# Altium schematic symbol library CM3_CM4_2021_Lib.SchLib: 258 symbols (part 1 of 4)
Pins are listed as number, name and electrical type; pins without a type are passive.

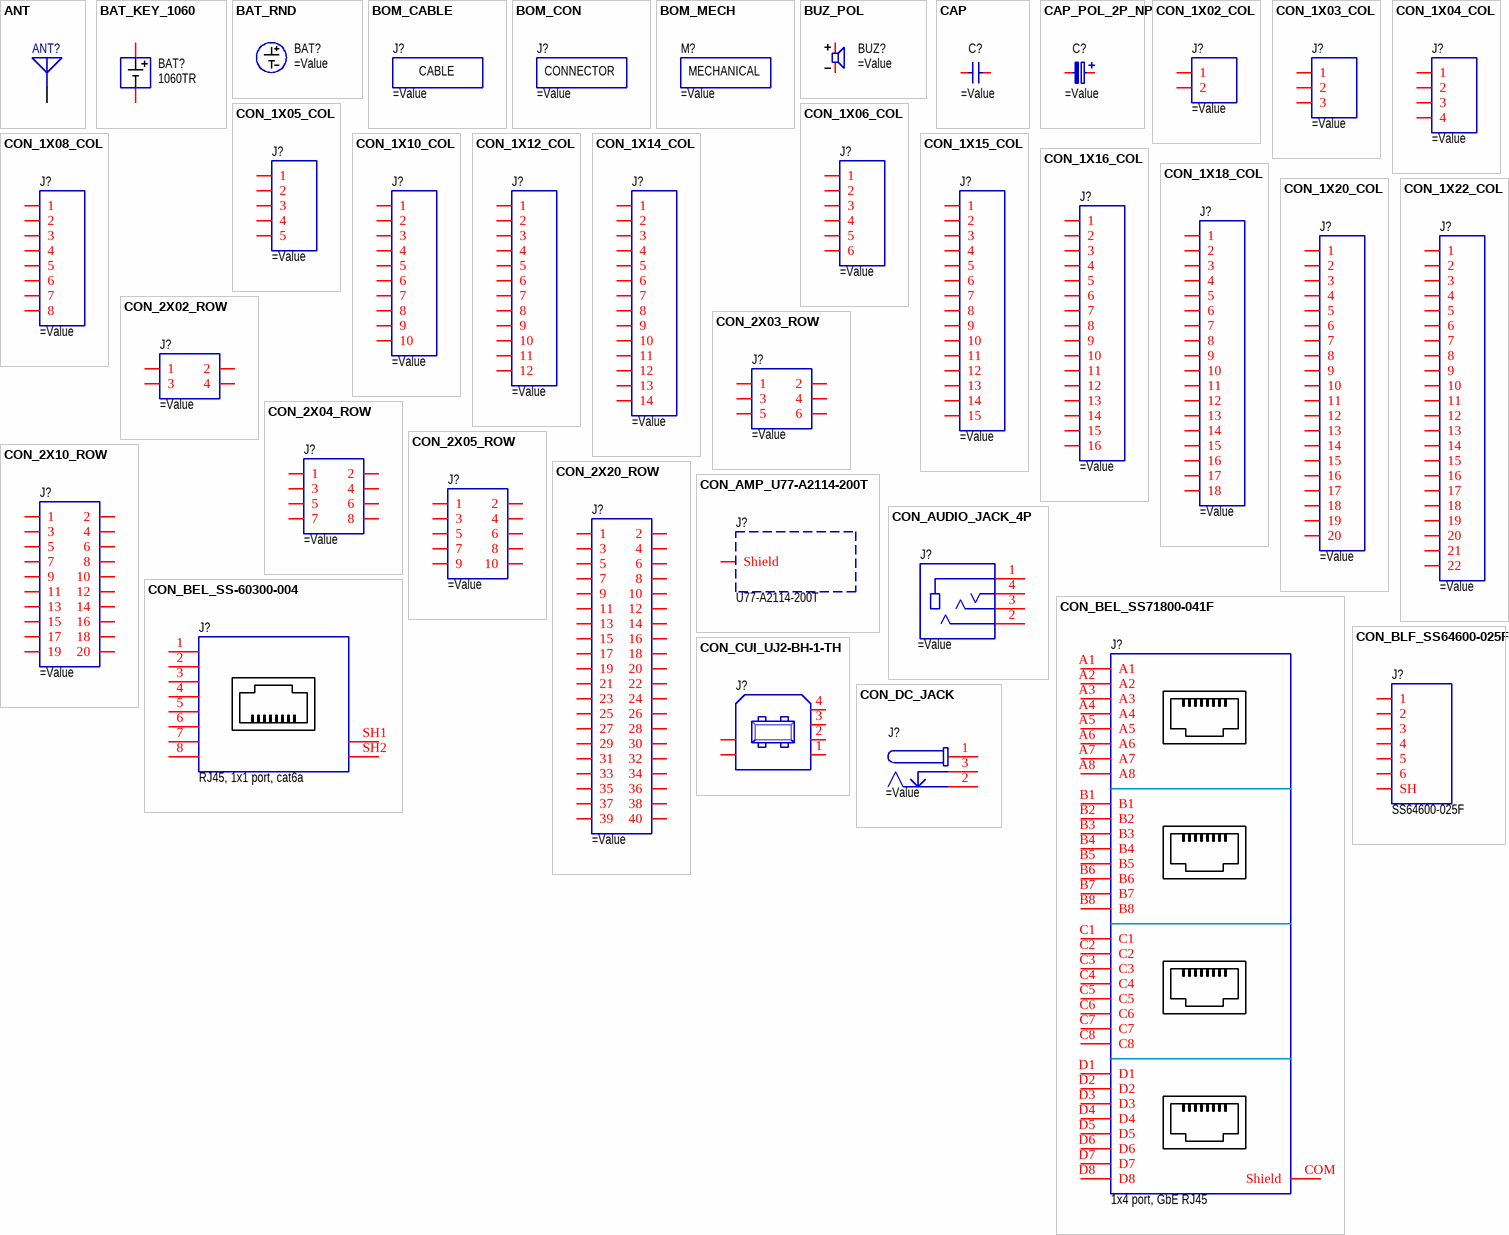
[diagram p0: symbols ANT to CON_DC_JACK]

## ANT
designator ANT?
pins: 1

## BAT_KEY_1060
designator BAT?, comment 1060TR
BAT; Manufacturer: Keystone Electronics Corp.; Specification: Battery holder, CR2025/CR2032, SMD package; Component Type: Battery holder; Mounting Type: SMD; MPN: 1060TR; Operating Temperature: -xx°C to +xx°C; Package: SMD; Value: 1060TR; Replacement: ?; System: ?
footprint BAT_KEY_1060
pins: 1, 2

## BAT_RND
designator BAT?  (mechanical)
Battery; Round Type;

## BOM_CABLE
designator J?  (mechanical)
BOM list; Cable;
text: CABLE

## BOM_CON
designator J?  (mechanical)
BOM list; Connector;
text: CONNECTOR

## BOM_MECH
designator M?  (mechanical)
BOM list; Mechanical;
text: MECHANICAL

## BUZ_POL
designator BUZ?
Buzzer
pins: 1, 2

## CAP
designator C?
Capacitor; Non-polarized;
pins: 1, 2

## CAP_POL_2P_NP
designator C?
Capacitor; Polarized;
pins: 1, 2

## CON_1X02_COL
designator J?
Connector; 1 Row;
pins: 1, 2

## CON_1X03_COL
designator J?
Connector; 1 Row;
pins: 1, 2, 3

## CON_1X04_COL
designator J?
Connector; 1 Row;
pins: 1, 2, 3, 4

## CON_1X05_COL
designator J?
Connector; 1 Row;
pins: 1, 2, 3, 4, 5

## CON_1X06_COL
designator J?
Connector; 1 Row;
pins: 1, 2, 3, 4, 5, 6

## CON_1X08_COL
designator J?
Connector; 1 Row;
pins: 1, 2, 3, 4, 5, 6, 7, 8

## CON_1X10_COL
designator J?
Connector; 1 Row;
pins: 1, 2, 3, 4, 5, 6, 7, 8, 9, 10

## CON_1X12_COL
designator J?
Connector; 1 Row;
pins: 1, 2, 3, 4, 5, 6, 7, 8, 9, 10, 11, 12

## CON_1X14_COL
designator J?
Connector; 1 Row;
pins: 1, 2, 3, 4, 5, 6, 7, 8, 9, 10, 11, 12, 13, 14

## CON_1X15_COL
designator J?
Connector; 1 Row;
pins: 1, 2, 3, 4, 5, 6, 7, 8, 9, 10, 11, 12, 13, 14, 15

## CON_1X16_COL
designator J?
Connector; 1 Row;
pins: 1, 2, 3, 4, 5, 6, 7, 8, 9, 10, 11, 12, 13, 14, 15, 16

## CON_1X18_COL
designator J?
Connector; 1 Row;
pins: 1, 2, 3, 4, 5, 6, 7, 8, 9, 10, 11, 12, 13, 14, 15, 16, 17, 18

## CON_1X20_COL
designator J?
Connector; 1 Row;
pins: 1, 2, 3, 4, 5, 6, 7, 8, 9, 10, 11, 12, 13, 14, 15, 16, 17, 18, 19, 20

## CON_1X22_COL
designator J?
Connector; 1 Row;
pins: 1, 2, 3, 4, 5, 6, 7, 8, 9, 10, 11, 12, 13, 14, 15, 16, 17, 18, 19, 20, 21, 22

## CON_2X02_ROW
designator J?
Connector; 2 Row;
pins: 1, 2, 3, 4

## CON_2X03_ROW
designator J?
Connector; 2 Row;
pins: 1, 2, 3, 4, 5, 6

## CON_2X04_ROW
designator J?
Connector; 2 Row;
pins: 1, 2, 3, 4, 5, 6, 7, 8

## CON_2X05_ROW
designator J?
Connector; 2 Row;
pins: 1, 2, 3, 4, 5, 6, 7, 8, 9, 10

## CON_2X10_ROW
designator J?
Connector; 2 Row;
pins: 1, 2, 3, 4, 5, 6, 7, 8, 9, 10, 11, 12, 13, 14, 15, 16, 17, 18, 19, 20

## CON_2X20_ROW
designator J?
Connector; 2 Row;
pins: 1, 2, 3, 4, 5, 6, 7, 8, 9, 10, 11, 12, 13, 14, 15, 16, 17, 18, 19, 20, 21, 22, 23, 24, 25, 26, 27, 28, 29, 30, 31, 32, 33, 34, 35, 36, 37, 38, 39, 40

## CON_AMP_U77-A2114-200T
designator J?, comment U77-A2114-200T
SFP cage; Manufacturer: Amphenol; Specification: SFP cage, 1x2 ports, tab grounding, nickel plated, press-fit assembly, THT package; Component Type: Connector; Mounting Type: THT; MPN: U77-A2114-200T; Operating Temperature: -40°C to +85°C; Package: THT; Value: U77-A2114-200T
footprint CON_TEC_1761014-3
pins: 0 Shield

## CON_AUDIO_JACK_4P
designator J?
Connector; Audio Jack; 4-pin;
pins: 1, 2, 3, 4

## CON_BEL_SS71800-041F
designator J?, comment 1x4 port, GbE RJ45
Connector; RJ45; 4-port;; Manufacturer: Bel Fuse; MPN: SS71800-041F; Specification: RJ45 connector, 1x4 port, Tab-down, THT package; Component Type: Connector; Mounting Type: THT; Operating Temperature: -40°C to +85°C; Package: THT; Value: 1x4 port, GbE RJ45
pins: A1, A2, A3, A4, A5, A6, A7, A8, B1, B2, B3, B4, B5, B6, B7, B8, C1, C2, C3, C4, C5, C6, C7, C8, COM Shield, D1, D2, D3, D4, D5, D6, D7, D8

## CON_BEL_SS-60300-004
designator J?, comment RJ45, 1x1 port, cat6a
Connector; Manufacturer: Stewart Connector (Bel Fuse); MPN: SS-60300-004; Specification: RJ45 connector, 1x1 port, 8 pin, 8p8c, cat6a, shielded, horizontal, Tab Up, THT package; Replacement: YES; Component Type: Connector; Mounting Type: THT; Operating Temperature: -xx°C to +xx°C; Package: THT; Value: RJ45, 1x1 port, cat6a; System: ?
footprint CON_BEL_SS-60300-004 (Footprint not found)
pins: 1, 2, 3, 4, 5, 6, 7, 8, SH1 Shield, SH2 Shield

## CON_BLF_SS64600-025F
designator J?, comment SS64600-025F
Connector; Manufacturer: Bel Fuse; Specification: Modular Jack, Standard, Horizontal (90), 6P 6C, NF Shielded; Component Type: Connector; Mounting Type: THT; MPN: SS64600-025F; Package: RJ12; Value: SS64600-025F
footprint CONN_SS64600-025F (Footprint not found)
pins: 1, 2, 3, 4, 5, 6, SH

## CON_CUI_UJ2-BH-1-TH
designator J?, comment USB-B  (value not drawn)
MPN: UJ2-BH-1-TH; Manufacturer: CUI Inc; Specification: USB 2.0 type B jack, horizontal, white insulator, THT package; Mounting Type: THT; Value: USB-B; Component Type: Connector; Operating Temperature: -20°C to +85°C
footprint CON_CUI_UJ2-BH-TH
pins: 1, 2, 3, 4, SH (power), SH (power)

## CON_DC_JACK
designator J?
Connector; DC Power Jack;
pins: 1, 2, 3

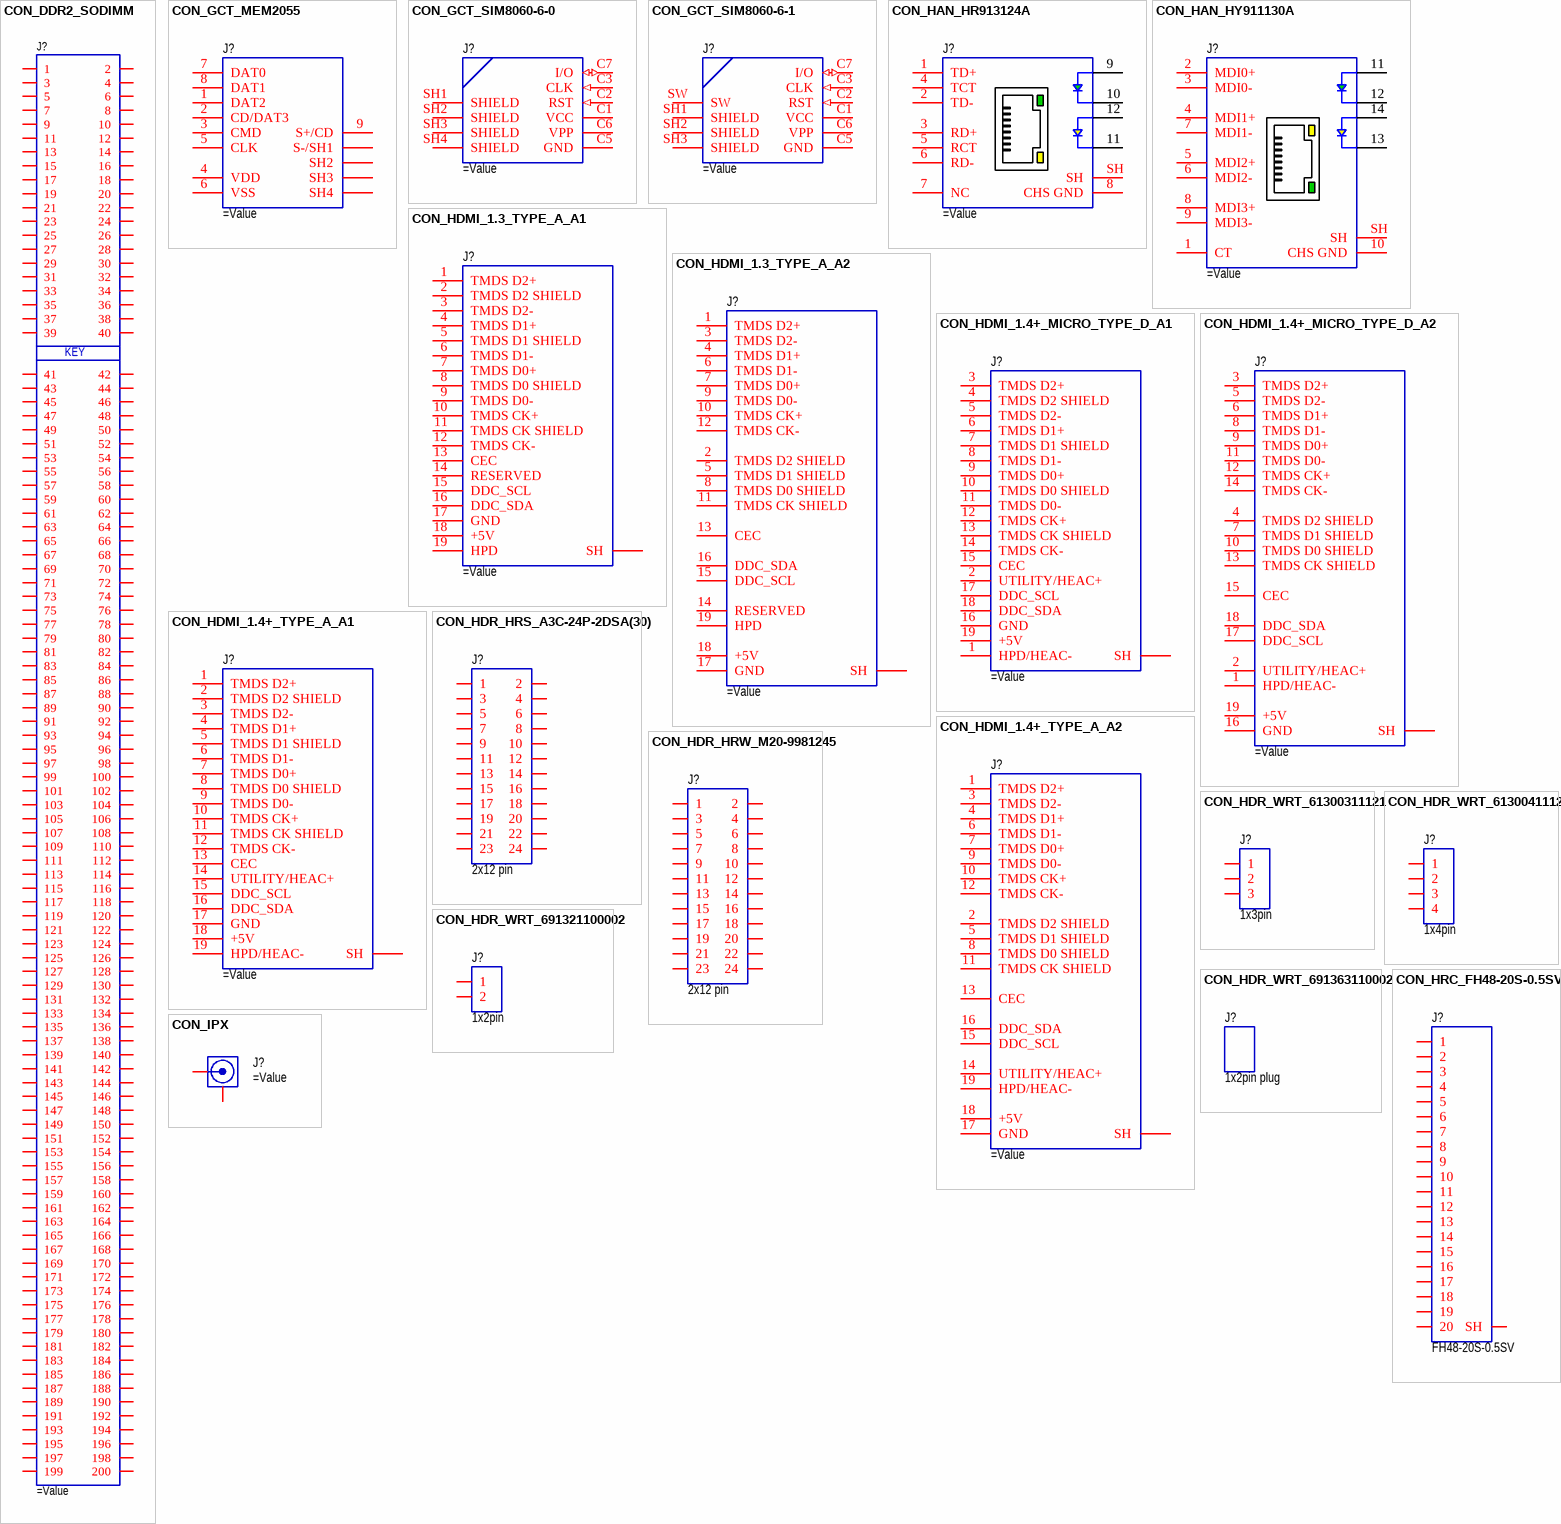
[diagram p1: symbols CON_DDR2_SODIMM to CON_IPX]

## CON_DDR2_SODIMM
designator J?
Connector; DDR2 DIMM Socket;
pins: 1, 2, 3, 4, 5, 6, 7, 8, 9, 10, 11, 12, 13, 14, 15, 16, 17, 18, 19, 20, 21, 22, 23, 24, 25, 26, 27, 28, 29, 30, 31, 32, 33, 34, 35, 36, 37, 38, 39, 40, 41, 42, 43, 44, 45, 46, 47, 48, 49, 50, 51, 52, 53, 54, 55, 56, 57, 58, 59, 60, 61, 62, 63, 64, 65, 66, 67, 68, 69, 70, 71, 72, 73, 74, 75, 76, 77, 78, 79, 80, 81, 82, 83, 84, 85, 86, 87, 88, 89, 90, 91, 92, 93, 94, 95, 96, 97, 98, 99, 100, 101, 102, 103, 104, 105, 106, 107, 108, 109, 110, 111, 112, 113, 114, 115, 116, 117, 118, 119, 120, 121, 122, 123, 124, 125, 126, 127, 128, 129, 130, 131, 132, 133, 134, 135, 136, 137, 138, 139, 140, 141, 142, 143, 144, 145, 146, 147, 148, 149, 150, 151, 152, 153, 154, 155, 156, 157, 158, 159, 160, 161, 162, 163, 164, 165, 166, 167, 168, 169, 170, 171, 172, 173, 174, 175, 176, 177, 178, 179, 180, 181, 182, 183, 184, 185, 186, 187, 188, 189, 190, 191, 192, 193, 194, 195, 196, 197, 198, 199, 200
text: KEY

## CON_GCT_MEM2055
designator J?
Connector; MicroSD Card Connector;
pins: 1 DAT2, 2 CD/DAT3, 3 CMD, 4 VDD, 5 CLK, 6 VSS, 7 DAT0, 8 DAT1, 9 S+/CD, SH1 S-/SH1, SH2, SH3, SH4

## CON_GCT_SIM8060-6-0
designator J?
Connector; Nano SIM Card;
pins: C1 VCC (power), C2 RST (in), C3 CLK (in), C5 GND (power), C6 VPP (power), C7 I/O (io), SH1 SHIELD (power), SH2 SHIELD (power), SH3 SHIELD (power), SH4 SHIELD (power)

## CON_GCT_SIM8060-6-1
designator J?
Connector; Nano SIM Card;
pins: C1 VCC (power), C2 RST (in), C3 CLK (in), C5 GND (power), C6 VPP (power), C7 I/O (io), SH1 SHIELD (power), SH2 SHIELD (power), SH3 SHIELD (power), SW (power)

## CON_HAN_HR913124A
designator J?
Connector; RJ45;
pins: 1 TD+, 2 TD-, 3 RD+, 4 TCT, 5 RCT, 6 RD-, 7 NC, 8 CHS GND, 9, 10, 11, 12, SH

## CON_HAN_HY911130A
designator J?
Connector; RJ45;
pins: 1 CT, 2 MDI0+, 3 MDI0-, 4 MDI1+, 5 MDI2+, 6 MDI2-, 7 MDI1-, 8 MDI3+, 9 MDI3-, 10 CHS GND, 11, 12, 13, 14, SH

## CON_HDMI_1.3_TYPE_A_A1
designator J?
Connector; HDMI v1.3; Type A;
pins: 1 TMDS D2+, 2 TMDS D2 SHIELD, 3 TMDS D2-, 4 TMDS D1+, 5 TMDS D1 SHIELD, 6 TMDS D1-, 7 TMDS D0+, 8 TMDS D0 SHIELD, 9 TMDS D0-, 10 TMDS CK+, 11 TMDS CK SHIELD, 12 TMDS CK-, 13 CEC, 14 RESERVED, 15 DDC_SCL, 16 DDC_SDA, 17 GND, 18 +5V, 19 HPD, SH

## CON_HDMI_1.3_TYPE_A_A2
designator J?
Connector; HDMI v1.3; Type A;
pins: 1 TMDS D2+, 2 TMDS D2 SHIELD, 3 TMDS D2-, 4 TMDS D1+, 5 TMDS D1 SHIELD, 6 TMDS D1-, 7 TMDS D0+, 8 TMDS D0 SHIELD, 9 TMDS D0-, 10 TMDS CK+, 11 TMDS CK SHIELD, 12 TMDS CK-, 13 CEC, 14 RESERVED, 15 DDC_SCL, 16 DDC_SDA, 17 GND, 18 +5V, 19 HPD, SH

## CON_HDMI_1.4+_MICRO_TYPE_D_A1
designator J?
Connector; HDMI v1.4+; Type D (Micro-HDMI);
pins: 1 HPD/HEAC-, 2 UTILITY/HEAC+, 3 TMDS D2+, 4 TMDS D2 SHIELD, 5 TMDS D2-, 6 TMDS D1+, 7 TMDS D1 SHIELD, 8 TMDS D1-, 9 TMDS D0+, 10 TMDS D0 SHIELD, 11 TMDS D0-, 12 TMDS CK+, 13 TMDS CK SHIELD, 14 TMDS CK-, 15 CEC, 16 GND, 17 DDC_SCL, 18 DDC_SDA, 19 +5V, SH

## CON_HDMI_1.4+_MICRO_TYPE_D_A2
designator J?
Connector; HDMI v1.4+; Type D (Micro-HDMI);
pins: 1 HPD/HEAC-, 2 UTILITY/HEAC+, 3 TMDS D2+, 4 TMDS D2 SHIELD, 5 TMDS D2-, 6 TMDS D1+, 7 TMDS D1 SHIELD, 8 TMDS D1-, 9 TMDS D0+, 10 TMDS D0 SHIELD, 11 TMDS D0-, 12 TMDS CK+, 13 TMDS CK SHIELD, 14 TMDS CK-, 15 CEC, 16 GND, 17 DDC_SCL, 18 DDC_SDA, 19 +5V, SH

## CON_HDMI_1.4+_TYPE_A_A1
designator J?
Connector; HDMI v1.4+; Type A;
pins: 1 TMDS D2+, 2 TMDS D2 SHIELD, 3 TMDS D2-, 4 TMDS D1+, 5 TMDS D1 SHIELD, 6 TMDS D1-, 7 TMDS D0+, 8 TMDS D0 SHIELD, 9 TMDS D0-, 10 TMDS CK+, 11 TMDS CK SHIELD, 12 TMDS CK-, 13 CEC, 14 UTILITY/HEAC+, 15 DDC_SCL, 16 DDC_SDA, 17 GND, 18 +5V, 19 HPD/HEAC-, SH

## CON_HDMI_1.4+_TYPE_A_A2
designator J?
Connector; HDMI v1.4+; Type A;
pins: 1 TMDS D2+, 2 TMDS D2 SHIELD, 3 TMDS D2-, 4 TMDS D1+, 5 TMDS D1 SHIELD, 6 TMDS D1-, 7 TMDS D0+, 8 TMDS D0 SHIELD, 9 TMDS D0-, 10 TMDS CK+, 11 TMDS CK SHIELD, 12 TMDS CK-, 13 CEC, 14 UTILITY/HEAC+, 15 DDC_SCL, 16 DDC_SDA, 17 GND, 18 +5V, 19 HPD/HEAC-, SH

## CON_HDR_HRS_A3C-24P-2DSA(30)
designator J?, comment 2x12 pin
Connector; Manufacturer: Hirose; MPN: A3C-24P-2DSA(30); Specification: Connector, pin header, 2x12 pin, double row, 2.00mm pitch, straight, THT package; Replacement: YES; Component Type: Connector; Mounting Type: THT; Operating Temperature: -55°C to +85°C; Package: THT; Value: 2x12 pin; System: ?
footprint CON_HDR_P200_2X12
pins: 1, 2, 3, 4, 5, 6, 7, 8, 9, 10, 11, 12, 13, 14, 15, 16, 17, 18, 19, 20, 21, 22, 23, 24

## CON_HDR_HRW_M20-9981245
designator J?, comment 2x12 pin
Connector; Manufacturer: Harwin; MPN: M20-9981245; Specification: Connector, pin header, 2x12 pin, double row, 2.54mm pitch, straight, THT package; Replacement: YES; Component Type: Connector; Mounting Type: THT; Operating Temperature: -40°C to +105°C; Package: THT; Value: 2x12 pin; System: ?
footprint CON_HDR_P254_2X12
pins: 1, 2, 3, 4, 5, 6, 7, 8, 9, 10, 11, 12, 13, 14, 15, 16, 17, 18, 19, 20, 21, 22, 23, 24

## CON_HDR_WRT_61300311121
designator J?, comment 1x3pin
Connector; Manufacturer: Wurth Elektronik GmbH; MPN: 61300311121; Specification: Connector, pin header, 1x3 pin, single row, 2.54 pitch, straight pin, THT package; Replacement: YES; Component Type: Connector; Mounting Type: THT; Operating Temperature: -40°C to +125°C; Package: THT; Value: 1x3pin; System: ?
footprint CON_HDR_P254_1X03 (Footprint not found)
pins: 1, 2, 3

## CON_HDR_WRT_61300411121
designator J?, comment 1x4pin
Connector; Manufacturer: Wurth Elektronik GmbH; MPN: 61300411121; Specification: Connector, pin header, 1x4 pin, single row, 2.54 pitch, straight pin, THT package; Replacement: YES; Component Type: Connector; Mounting Type: THT; Operating Temperature: -40°C to +125°C; Package: THT; Value: 1x4pin; System: ?
footprint CON_HDR_P254_1X04 (Footprint not found)
pins: 1, 2, 3, 4

## CON_HDR_WRT_691321100002
designator J?, comment 1x2pin
Connector; Manufacturer: Wurth Elektronik GmbH; MPN: 691321100002; Specification: Connector, terminal block, 1x2 pin, 3.50 pitch, vertical, THT package; Replacement: YES; Component Type: Connector; Mounting Type: THT; Operating Temperature: -40°C to +105°C; Package: THT; Value: 1x2pin; System: ?
footprint CON_WRT_691321100002
pins: 1, 2

## CON_HDR_WRT_691363110002
designator J?, comment 1x2pin plug  (mechanical)
Connector; Manufacturer: Wurth Elektronik GmbH; MPN: 691363110002; Specification: Connector, terminal block plug, 1x2 pin, 3.50 pitch, vertical, THT package; Replacement: YES; Component Type: Connector; Mounting Type: THT; Operating Temperature: -40°C to +105°C; Package: THT; Value: 1x2pin plug; System: ?

## CON_HRC_FH48-20S-0.5SV
designator J?, comment FH48-20S-0.5SV
Connector; Manufacturer: Hirose; Specification: FFC/FPC connector, 0.50 mm pitch, 20pin, vertical mount; Component Type: Connector; Mounting Type: SMD; MPN: FH48-20S-0.5SV; Value: FH48-20S-0.5SV
footprint CONN_HIROSE_FH48-20S-0.5SV (Footprint not found)
pins: 1, 2, 3, 4, 5, 6, 7, 8, 9, 10, 11, 12, 13, 14, 15, 16, 17, 18, 19, 20, SH

## CON_IPX
designator J?
Connector; IPX/U.FL;
signal-integrity model Connector
pins: 1 GND, 2 SIG

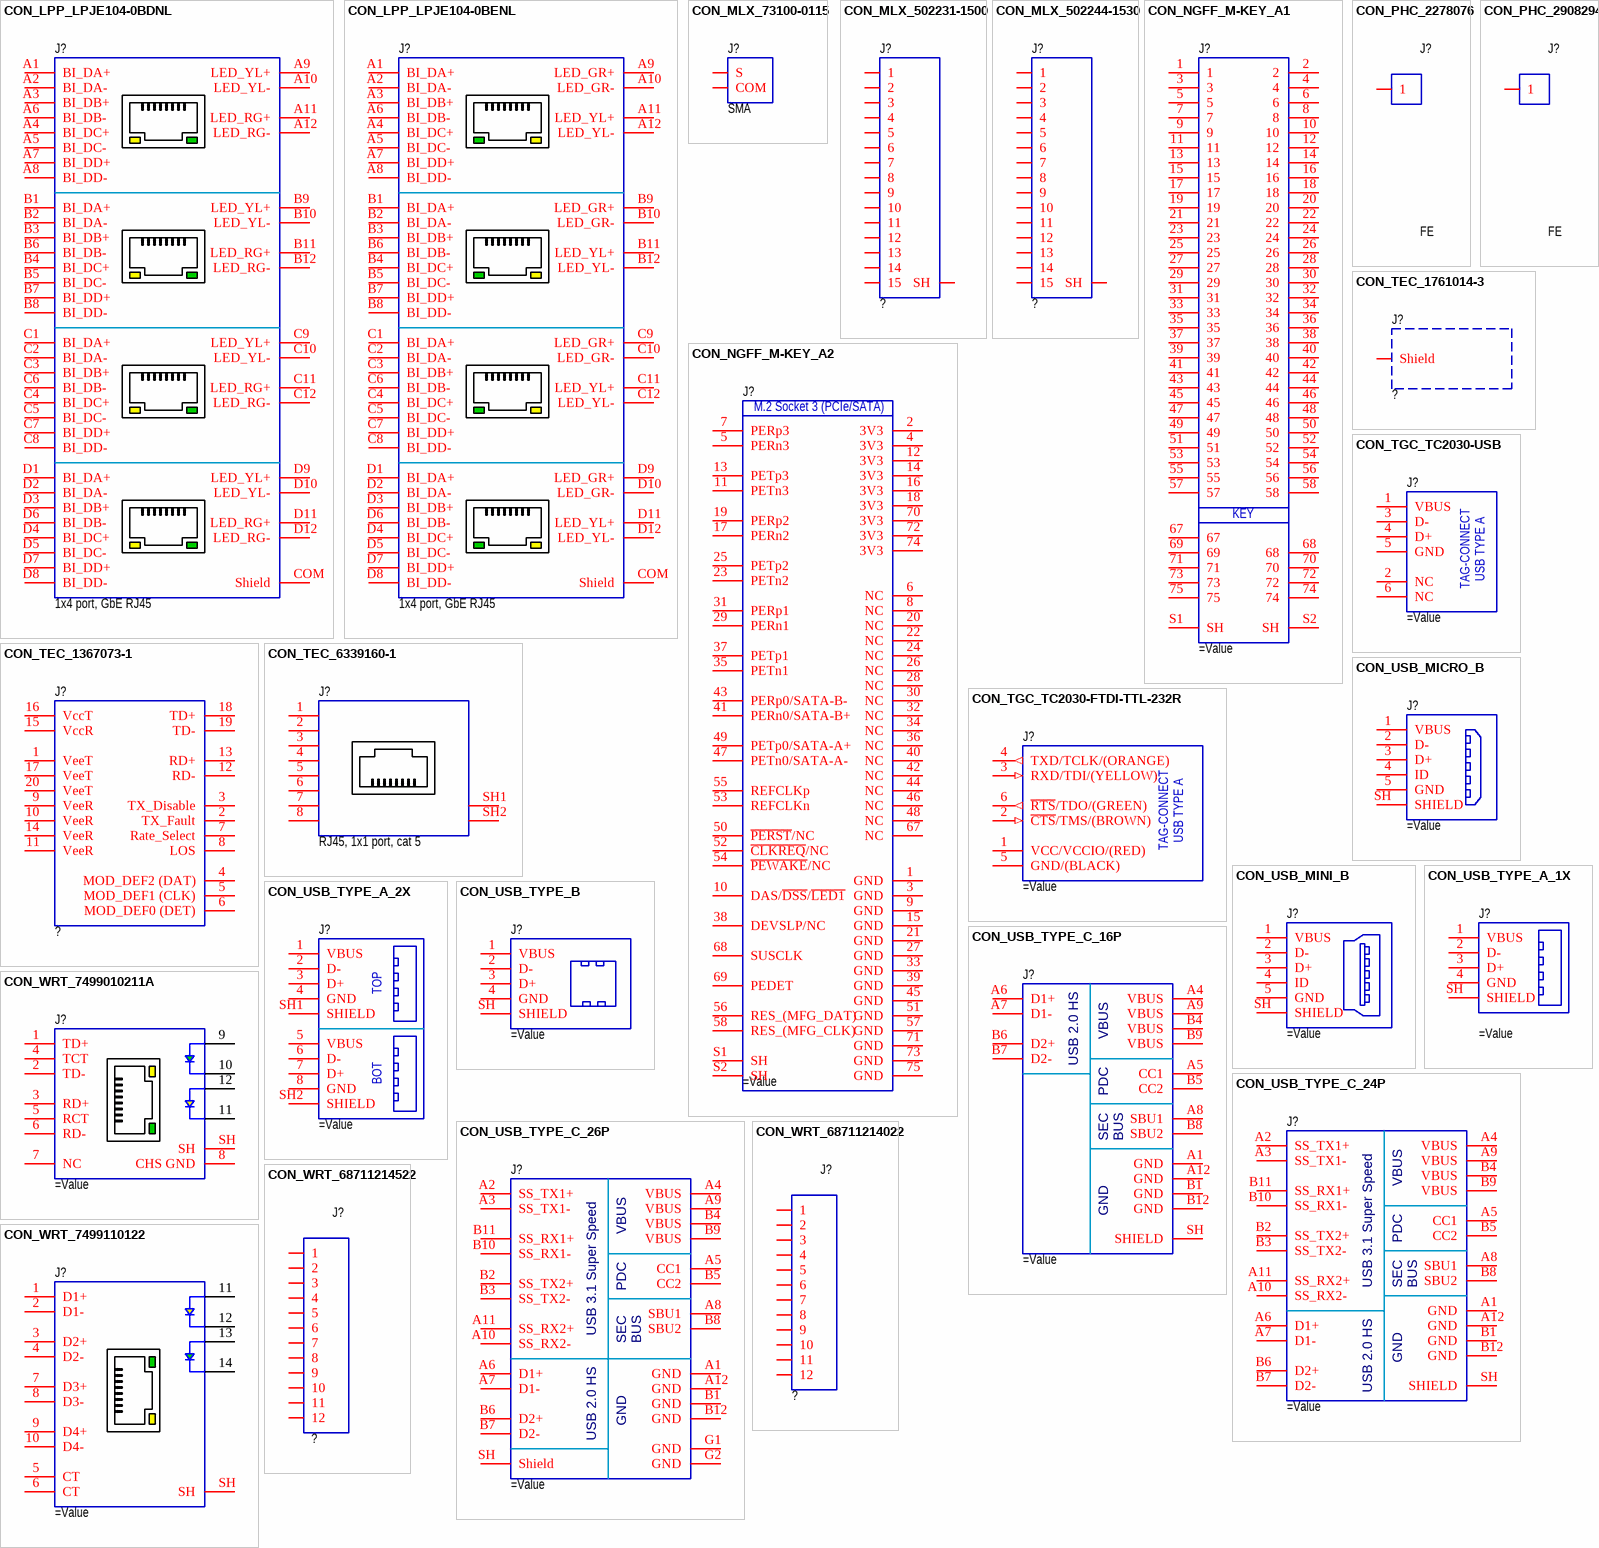
[diagram p2: symbols CON_LPP_LPJE104-0BDNL to CON_WRT_68711214522]

## CON_LPP_LPJE104-0BDNL
designator J?, comment 1x4 port, GbE RJ45
Connector; Manufacturer: LINK-PP; MPN: LPJE104-0BDNL; Specification: RJ45 connector, 1x4 port, 1000Base-T, THT package; Component Type: Connector; Mounting Type: THT; Operating Temperature: -40°C to +85°C; Package: THT; Value: 1x4 port, GbE RJ45
pins: A1 BI_DA+, A2 BI_DA-, A3 BI_DB+, A4 BI_DC+, A5 BI_DC-, A6 BI_DB-, A7 BI_DD+, A8 BI_DD-, A9 LED_YL+, A10 LED_YL-, A11 LED_RG+, A12 LED_RG-, B1 BI_DA+, B2 BI_DA-, B3 BI_DB+, B4 BI_DC+, B5 BI_DC-, B6 BI_DB-, B7 BI_DD+, B8 BI_DD-, B9 LED_YL+, B10 LED_YL-, B11 LED_RG+, B12 LED_RG-, C1 BI_DA+, C2 BI_DA-, C3 BI_DB+, C4 BI_DC+, C5 BI_DC-, C6 BI_DB-, C7 BI_DD+, C8 BI_DD-, C9 LED_YL+, C10 LED_YL-, C11 LED_RG+, C12 LED_RG-, COM Shield, D1 BI_DA+, D2 BI_DA-, D3 BI_DB+, D4 BI_DC+, D5 BI_DC-, D6 BI_DB-, D7 BI_DD+, D8 BI_DD-, D9 LED_YL+, D10 LED_YL-, D11 LED_RG+, D12 LED_RG-

## CON_LPP_LPJE104-0BENL
designator J?, comment 1x4 port, GbE RJ45
Connector; Manufacturer: LINK-PP; MPN: LPJE104-0BENL; Specification: RJ45 connector, 1x4 port, 1000Base-T, THT package; Component Type: Connector; Mounting Type: THT; Operating Temperature: -40°C to +85°C; Package: THT; Value: 1x4 port, GbE RJ45
pins: A1 BI_DA+, A2 BI_DA-, A3 BI_DB+, A4 BI_DC+, A5 BI_DC-, A6 BI_DB-, A7 BI_DD+, A8 BI_DD-, A9 LED_GR+, A10 LED_GR-, A11 LED_YL+, A12 LED_YL-, B1 BI_DA+, B2 BI_DA-, B3 BI_DB+, B4 BI_DC+, B5 BI_DC-, B6 BI_DB-, B7 BI_DD+, B8 BI_DD-, B9 LED_GR+, B10 LED_GR-, B11 LED_YL+, B12 LED_YL-, C1 BI_DA+, C2 BI_DA-, C3 BI_DB+, C4 BI_DC+, C5 BI_DC-, C6 BI_DB-, C7 BI_DD+, C8 BI_DD-, C9 LED_GR+, C10 LED_GR-, C11 LED_YL+, C12 LED_YL-, COM Shield, D1 BI_DA+, D2 BI_DA-, D3 BI_DB+, D4 BI_DC+, D5 BI_DC-, D6 BI_DB-, D7 BI_DD+, D8 BI_DD-, D9 LED_GR+, D10 LED_GR-, D11 LED_YL+, D12 LED_YL-

## CON_MLX_73100-0115
designator J?, comment SMA
Connector; Manufacturer: Molex; MPN: 73100-0115; Specification: SMA connector, right-angle PCB jack receptacle, 50 ohms, THT package; Replacement: YES; Component Type: Connector; Mounting Type: THT; Operating Temperature: -65°C to +165°C; Package: THT SMA; Value: SMA; System: ?
footprint CON_MLX_73100-0115
pins: COM, S

## CON_MLX_502231-1500
designator J?, comment ?
Connector; Manufacturer: Molex; Specification: FFC/FPC connector for LVDS, 0.50 mm pitch, 15pin, vertical mount, ZIF; Component Type: Connector; Mounting Type: SMD; Value: ?
footprint CONN_MOLEX_502231-1500 (Footprint not found)
pins: 1, 2, 3, 4, 5, 6, 7, 8, 9, 10, 11, 12, 13, 14, 15, SH

## CON_MLX_502244-1530
designator J?, comment ?
Connector; Manufacturer: Molex; Specification: FFC/FPC connector for LVDS, 0.50 mm pitch, 15pin, horizontal mount, ZIF; Component Type: Connector; Mounting Type: SMD; Value: ?
footprint CONN_MOLEX_502244-1530 (Footprint not found)
pins: 1, 2, 3, 4, 5, 6, 7, 8, 9, 10, 11, 12, 13, 14, 15, SH

## CON_NGFF_M-KEY_A1
designator J?
Connector; NGFF (M.2); M-Key;
pins: 1, 2, 3, 4, 5, 6, 7, 8, 9, 10, 11, 12, 13, 14, 15, 16, 17, 18, 19, 20, 21, 22, 23, 24, 25, 26, 27, 28, 29, 30, 31, 32, 33, 34, 35, 36, 37, 38, 39, 40, 41, 42, 43, 44, 45, 46, 47, 48, 49, 50, 51, 52, 53, 54, 55, 56, 57, 58, 67, 68, 69, 70, 71, 72, 73, 74, 75, S1 SH, S2 SH
text: KEY

## CON_NGFF_M-KEY_A2
designator J?
Connector; NGFF (M.2); M-Key;
pins: 1 GND, 2 3V3, 3 GND, 4 3V3, 5 PERn3, 6 NC, 7 PERp3, 8 NC, 9 GND, 10 DAS/~{DSS}/~{LED1}, 11 PETn3, 12 3V3, 13 PETp3, 14 3V3, 15 GND, 16 3V3, 17 PERn2, 18 3V3, 19 PERp2, 20 NC, 21 GND, 22 NC, 23 PETn2, 24 NC, 25 PETp2, 26 NC, 27 GND, 28 NC, 29 PERn1, 30 NC, 31 PERp1, 32 NC, 33 GND, 34 NC, 35 PETn1, 36 NC, 37 PETp1, 38 DEVSLP/NC, 39 GND, 40 NC, 41 PERn0/SATA-B+, 42 NC, 43 PERp0/SATA-B-, 44 NC, 45 GND, 46 NC, 47 PETn0/SATA-A-, 48 NC, 49 PETp0/SATA-A+, 50 ~{PERST}/NC, 51 GND, 52 ~{CLKREQ}/NC, 53 REFCLKn, 54 ~{PEWAKE}/NC, 55 REFCLKp, 56 RES_(MFG_DAT), 57 GND, 58 RES_(MFG_CLK), 67 NC, 68 SUSCLK, 69 PEDET, 70 3V3, 71 GND, 72 3V3, 73 GND, 74 3V3, 75 GND, S1 SH, S2 SH
text: M.2 Socket 3 (PCIe/SATA)

## CON_PHC_2278076
designator J?, comment FE
Connector; Manufacturer: Phoenix Contact; MPN: 2278076; Specification: Functional earth (FE) ground contact, ME BUS; Component Type: Connector; Mounting Type: Manual; Operating Temperature: -xx°C to +xx°C; Package: THT; Value: FE
footprint CON_PHC_2278076 (ME BUS FE CONTACT)
pins: 1

## CON_PHC_2908294
designator J?, comment FE
Connector; Manufacturer: Phoenix Contact; MPN: 2908294; Specification: Functional earth (FE) ground contact with soldering lug, ME BUS; Component Type: Connector; Mounting Type: Manual; Operating Temperature: -xx°C to +xx°C; Package: THT; Value: FE
footprint CON_PHC_2908294 (Footprint not found)
pins: 1

## CON_TEC_1367073-1
designator J?, comment ?
Connector; Manufacturer: TE Connectivity; Component Type: Connector; Value: ?
footprint CONN_TE_1367073-1 (Footprint not found)
pins: 1 VeeT, 2 TX_Fault, 3 TX_Disable, 4 MOD_DEF2 (DAT), 5 MOD_DEF1 (CLK), 6 MOD_DEF0 (DET), 7 Rate_Select, 8 LOS, 9 VeeR, 10 VeeR, 11 VeeR, 12 RD-, 13 RD+, 14 VeeR, 15 VccR, 16 VccT, 17 VeeT, 18 TD+, 19 TD-, 20 VeeT

## CON_TEC_1761014-3
designator J?, comment ?
SFP cage; Manufacturer: TE Connectivity; Component Type: Connector; Value: ?
footprint CON_TEC_1761014-3
pins: 0 Shield

## CON_TEC_6339160-1
designator J?, comment RJ45, 1x1 port, cat 5
Connector; Manufacturer: TE Connectivity; MPN: 6339160-1; Specification: RJ45 connector, 1x1 port, 8 pin, 8p8c, Cat 5, shielded, SMD package; Replacement: NO; Component Type: Connector; Mounting Type: SMD; Operating Temperature: -40°C to +85°C; Package: SMD; Value: RJ45, 1x1 port, cat 5; System: ?
pins: 1, 2, 3, 4, 5, 6, 7, 8, SH1 Shield, SH2 Shield

## CON_TGC_TC2030-FTDI-TTL-232R
designator J?
Cable; Tag-Connect; USB to TTL Serial Converter;
pins: 1 VCC/VCCIO/(RED) (power), 2 ~{CTS}/TMS/(BROWN) (in), 3 RXD/TDI/(YELLOW) (in), 4 TXD/TCLK/(ORANGE) (out), 5 GND/(BLACK) (power), 6 ~{RTS}/TDO/(GREEN) (out)
text: USB TYPE A; TAG-CONNECT

## CON_TGC_TC2030-USB
designator J?
Cable; Tag-Connect; USB Type A;
pins: 1 VBUS, 2 NC, 3 D-, 4 D+, 5 GND, 6 NC
text: USB TYPE A; TAG-CONNECT

## CON_USB_MICRO_B
designator J?
Connector; USB Micro B; Receptacle;
pins: 1 VBUS, 2 D-, 3 D+, 4 ID, 5 GND, SH SHIELD

## CON_USB_MINI_B
designator J?
Connector; USB Mini B; Receptacle;
pins: 1 VBUS, 2 D-, 3 D+, 4 ID, 5 GND, SH SHIELD

## CON_USB_TYPE_A_1X
designator J?
Connector; USB Type A; Receptacle;
pins: 1 VBUS, 2 D-, 3 D+, 4 GND, SH SHIELD

## CON_USB_TYPE_A_2X
designator J?
Connector; USB Type A (Stacked); Receptacle;
pins: 1 VBUS, 2 D-, 3 D+, 4 GND, 5 VBUS, 6 D-, 7 D+, 8 GND, SH1 SHIELD, SH2 SHIELD
text: TOP; BOT

## CON_USB_TYPE_B
designator J?
Connector; USB Type B; Receptacle;
pins: 1 VBUS, 2 D-, 3 D+, 4 GND, SH SHIELD

## CON_USB_TYPE_C_16P
designator J?
Connector; USB 3.1 Type C; Receptacle; 24-pin; USB 2.0 Only;
pins: A1 GND, A4 VBUS, A5 CC1, A6 D1+, A7 D1-, A8 SBU1, A9 VBUS, A12 GND, B1 GND, B4 VBUS, B5 CC2, B6 D2+, B7 D2-, B8 SBU2, B9 VBUS, B12 GND, SH SHIELD
text: USB 2.0 HS; PDC; SEC; BUS

## CON_USB_TYPE_C_24P
designator J?
Connector; USB 3.1 Type C; Receptacle; 24-pin;
pins: A1 GND, A2 SS_TX1+, A3 SS_TX1-, A4 VBUS, A5 CC1, A6 D1+, A7 D1-, A8 SBU1, A9 VBUS, A10 SS_RX2-, A11 SS_RX2+, A12 GND, B1 GND, B2 SS_TX2+, B3 SS_TX2-, B4 VBUS, B5 CC2, B6 D2+, B7 D2-, B8 SBU2, B9 VBUS, B10 SS_RX1-, B11 SS_RX1+, B12 GND, SH SHIELD
text: PDC; USB 3.1 Super Speed; SEC; BUS; USB 2.0 HS

## CON_USB_TYPE_C_26P
designator J?
Connector; USB 3.1 Type C; Receptacle; 26-pin;
pins: A1 GND, A2 SS_TX1+, A3 SS_TX1-, A4 VBUS, A5 CC1, A6 D1+, A7 D1-, A8 SBU1, A9 VBUS, A10 SS_RX2-, A11 SS_RX2+, A12 GND, B1 GND, B2 SS_TX2+, B3 SS_TX2-, B4 VBUS, B5 CC2, B6 D2+, B7 D2-, B8 SBU2, B9 VBUS, B10 SS_RX1-, B11 SS_RX1+, B12 GND, G1 GND, G2 GND, SH Shield
text: PDC; USB 3.1 Super Speed; SEC; BUS; USB 2.0 HS

## CON_WRT_7499010211A
designator J?
Connector; RJ45;
pins: 1 TD+, 2 TD-, 3 RD+, 4 TCT, 5 RCT, 6 RD-, 7 NC, 8 CHS GND, 9, 10, 11, 12, SH

## CON_WRT_7499110122
designator J?
Connector; RJ45;
pins: 1 D1+, 2 D1-, 3 D2+, 4 D2-, 5 CT, 6 CT, 7 D3+, 8 D3-, 9 D4+, 10 D4-, 11, 12, 13, 14, SH

## CON_WRT_68711214022
designator J?, comment ?
Connector; Manufacturer: Wurth Elektronik GmbH; Component Type: Connector; Mounting Type: SMD; Value: ?
footprint CONN_WE_68711214022 (Footprint not found)
pins: 1, 2, 3, 4, 5, 6, 7, 8, 9, 10, 11, 12

## CON_WRT_68711214522
designator J?, comment ?
Connector; Manufacturer: Wurth Elektronik GmbH; Component Type: Connector; Mounting Type: SMD; Value: ?
footprint CONN_WE_68711214522
pins: 1, 2, 3, 4, 5, 6, 7, 8, 9, 10, 11, 12

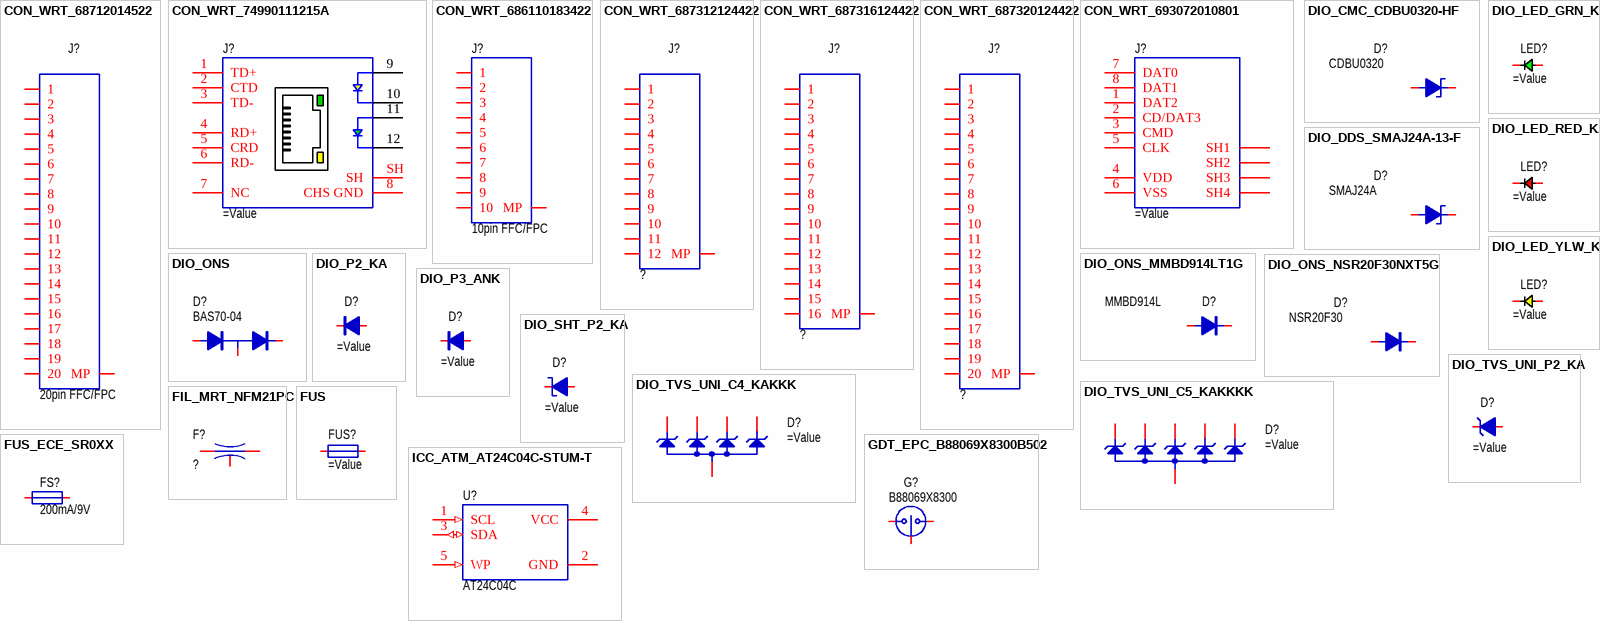
[diagram p3: symbols CON_WRT_68712014522 to ICC_ATM_AT24C04C-STUM-T]

## CON_WRT_68712014522
designator J?, comment 20pin FFC/FPC
Connector; Manufacturer: Wurth Elektronik GmbH; MPN: 68712014522; Specification: WR-FPC SMT ZIF Horizontal, bottom contacts, 0.50 mm pitch, 20 pin, SMD package; Replacement: YES; Component Type: Connector; Mounting Type: SMD; Operating Temperature: -25°C to +85°C; Package: SMD FFC/FPC; Value: 20pin FFC/FPC; System: ?
footprint CON_WRT_68712014522
pins: 0 MP, 1, 2, 3, 4, 5, 6, 7, 8, 9, 10, 11, 12, 13, 14, 15, 16, 17, 18, 19, 20

## CON_WRT_74990111215A
designator J?
Connector; RJ45;
pins: 1 TD+, 2 CTD, 3 TD-, 4 RD+, 5 CRD, 6 RD-, 7 NC, 8 CHS GND, 9, 10, 11, 12, SH

## CON_WRT_686110183422
designator J?, comment 10pin FFC/FPC
Connector; Manufacturer: Wurth Elektronik GmbH; MPN: 686110183422; Specification: WR-FPC SMT ZIF Horizontal, top contacts, 1.00 mm pitch, 10 pin, SMD package; Replacement: YES; Component Type: Connector; Mounting Type: SMD; Operating Temperature: -25°C to +85°C; Package: SMD FFC/FPC; Value: 10pin FFC/FPC; System: ?
footprint CON_WRT_686110183422 (Footprint not found)
footprint CON_WRT_686110183422_REV
pins: 0 MP, 1, 2, 3, 4, 5, 6, 7, 8, 9, 10

## CON_WRT_687312124422
designator J?, comment ?
Connector; Manufacturer: Wurth Elektronik GmbH; Component Type: Connector; Mounting Type: SMD; Value: ?
footprint CONN_WE_687312124422
pins: 0 MP, 1, 2, 3, 4, 5, 6, 7, 8, 9, 10, 11, 12

## CON_WRT_687316124422
designator J?, comment ?
Connector; Manufacturer: Wurth Elektronik GmbH; Component Type: Connector; Mounting Type: SMD; Value: ?
footprint CONN_WE_687316124422
pins: 0 MP, 1, 2, 3, 4, 5, 6, 7, 8, 9, 10, 11, 12, 13, 14, 15, 16

## CON_WRT_687320124422
designator J?, comment ?
Connector; Manufacturer: Wurth Elektronik GmbH; Component Type: Connector; Mounting Type: SMD; Value: ?
footprint CONN_WE_687320124422 (Footprint not found)
pins: 0 MP, 1, 2, 3, 4, 5, 6, 7, 8, 9, 10, 11, 12, 13, 14, 15, 16, 17, 18, 19, 20

## CON_WRT_693072010801
designator J?
Connector; MicroSD Card Connector;
pins: 1 DAT2, 2 CD/DAT3, 3 CMD, 4 VDD, 5 CLK, 6 VSS, 7 DAT0, 8 DAT1, SH1, SH2, SH3, SH4

## DIO_CMC_CDBU0320-HF
designator D?, comment CDBU0320
Diode; Manufacturer: Comchip Technology; MPN: CDBU0320-HF; Specification: Schottky Barrier Diode, 20V, 1.5A, SMD 0603 (1608) package; Component Type: Schottky Diode; Mounting Type: SMD; Operating Temperature: -40°C to +125°C; Package: SMD 0603 (1608); Value: CDBU0320; Replacement: ?; System: ?
footprint DIO_0603R
pins: 1, 2

## DIO_DDS_SMAJ24A-13-F
designator D?, comment SMAJ24A
Diode; Manufacturer: Diodes Incorporated; MPN: SMAJ24A-13-F; Specification: TVS Diode, unidirectional, 24V, 400W, DO-214AC (SMA) package; Replacement: YES; Component Type: TVS Diode; Mounting Type: SMD; Operating Temperature: -55°C to +150°C; Package: DO-214AC (SMA); Value: SMAJ24A; System: ?
footprint DIO_SMA_R
pins: 1, 2

## DIO_LED_GRN_KA
designator LED?
Diode; LED; Green;
pins: 1, 2

## DIO_LED_RED_KA
designator LED?
Diode; LED; Red;
pins: 1, 2

## DIO_LED_YLW_KA
designator LED?
Diode; LED; Yellow;
pins: 1, 2

## DIO_ONS
designator D?, comment BAS70-04
Diode; Manufacturer: Diodes Incorporated; MPN: BAS70-04-7-F; Specification: Shottky barrier diode, 70V, 70mA, 1 pair series connection, SOT23-3 package; Component Type: Diode; Mounting Type: SMD; Operating Temperature: -55°C to +125°C; Package: SOT23-3; Value: BAS70-04
footprint PKG_SOT23-3_TO236
pins: 1, 2, 3

## DIO_ONS_MMBD914LT1G
designator D?, comment MMBD914L
Diode; Manufacturer: On Semiconductor; MPN: MMBD914LT1G; Specification: High spped switching diode, 100V, 200mA, SOT23-3; Component Type: Diode; Mounting Type: SMD; Operating Temperature: -55°C to +150°C; Package: SOT23-3; Value: MMBD914L
footprint PKG_SOT23-3_TO236
pins: 1, 3

## DIO_ONS_NSR20F30NXT5G
designator D?, comment NSR20F30
Diode; Manufacturer: On Semiconductor; MPN: NSR20F30NXT5G; Specification: Schottky Barrier Diode, 30V, 2A, DSN2 (SMD 0603) package; Component Type: Diode; Mounting Type: SMD; Operating Temperature: -40°C to +125°C; Package: DSN2 (SMD 0603); Value: NSR20F30
footprint DIO_DSN2_0603 (Footprint not found)
pins: 1, 2

## DIO_P2_KA
designator D?
Diode; 2-pin;
pins: 1, 2

## DIO_P3_ANK
designator D?
Diode; 3-pin;
pins: 1, 3

## DIO_SHT_P2_KA
designator D?
Diode; Schottky;
pins: 1 K, 2 A

## DIO_TVS_UNI_C4_KAKKK
designator D?
Diode; TVS Array;
pins: 1, 2, 3, 4, 5

## DIO_TVS_UNI_C5_KAKKKK
designator D?
Diode; TVS Array;
pins: 1, 2, 3, 4, 5, 6

## DIO_TVS_UNI_P2_KA
designator D?
Diode; TVS; Unipolar;
pins: 1 K, 2 A

## FIL_MRT_NFM21PC
designator F?, comment ?
Filter; Manufacturer: Murata Manufacturing; Component Type: EMI Filter; Mounting Type: SMD; Value: ?
footprint 0805FIL (Footprint not found)
pins: 1 I/O, 2 GND, 3 I/O

## FUS
designator FUS?
Fuse
pins: 1, 2

## FUS_ECE_SR0XX
designator FS?, comment 200mA/9V
Fuse; Manufacturer: ECE; MPN: SR020-09; Specification: Polymer fuse, 200mA, 9V, SMD 0805 (2012) package; Replacement: YES; Component Type: Polymer fuse; Mounting Type: SMD; Operating Temperature: -40°C to +85°C; Package: SMD 0805 (2012); Value: 200mA/9V; System: ?
footprint FUS_ECE_SR0XX (Footprint not found)
pins: 1, 2

## GDT_EPC_B88069X8300B502
designator G?, comment B88069X8300
GDT; Manufacturer: TDK (Epcos); MPN: B88069X8300B502; Specification: Gas discharge tube, B88069X series, 15kA, 90V, 3 pin THT package; Component Type: GDT; Mounting Type: THT; Operating Temperature: -40°C to +90°C; Package: THT 3pin; Value: B88069X8300
footprint GDT_EPC_B88069X
pins: 1, 2, 3

## ICC_ATM_AT24C04C-STUM-T
designator U?, comment AT24C04C
ICC; Manufacturer: Microchip Technology (Atmel); MPN: AT24C04C-STUM-T; Component Type: IC; Mounting Type: SMD; Operating Temperature: -40°C to +85°C; Package: SOT-23-5; Value: AT24C04C
footprint SOT23-5
pins: 1 SCL (in), 2 GND (power), 3 SDA (io), 4 VCC (power), 5 WP (in)

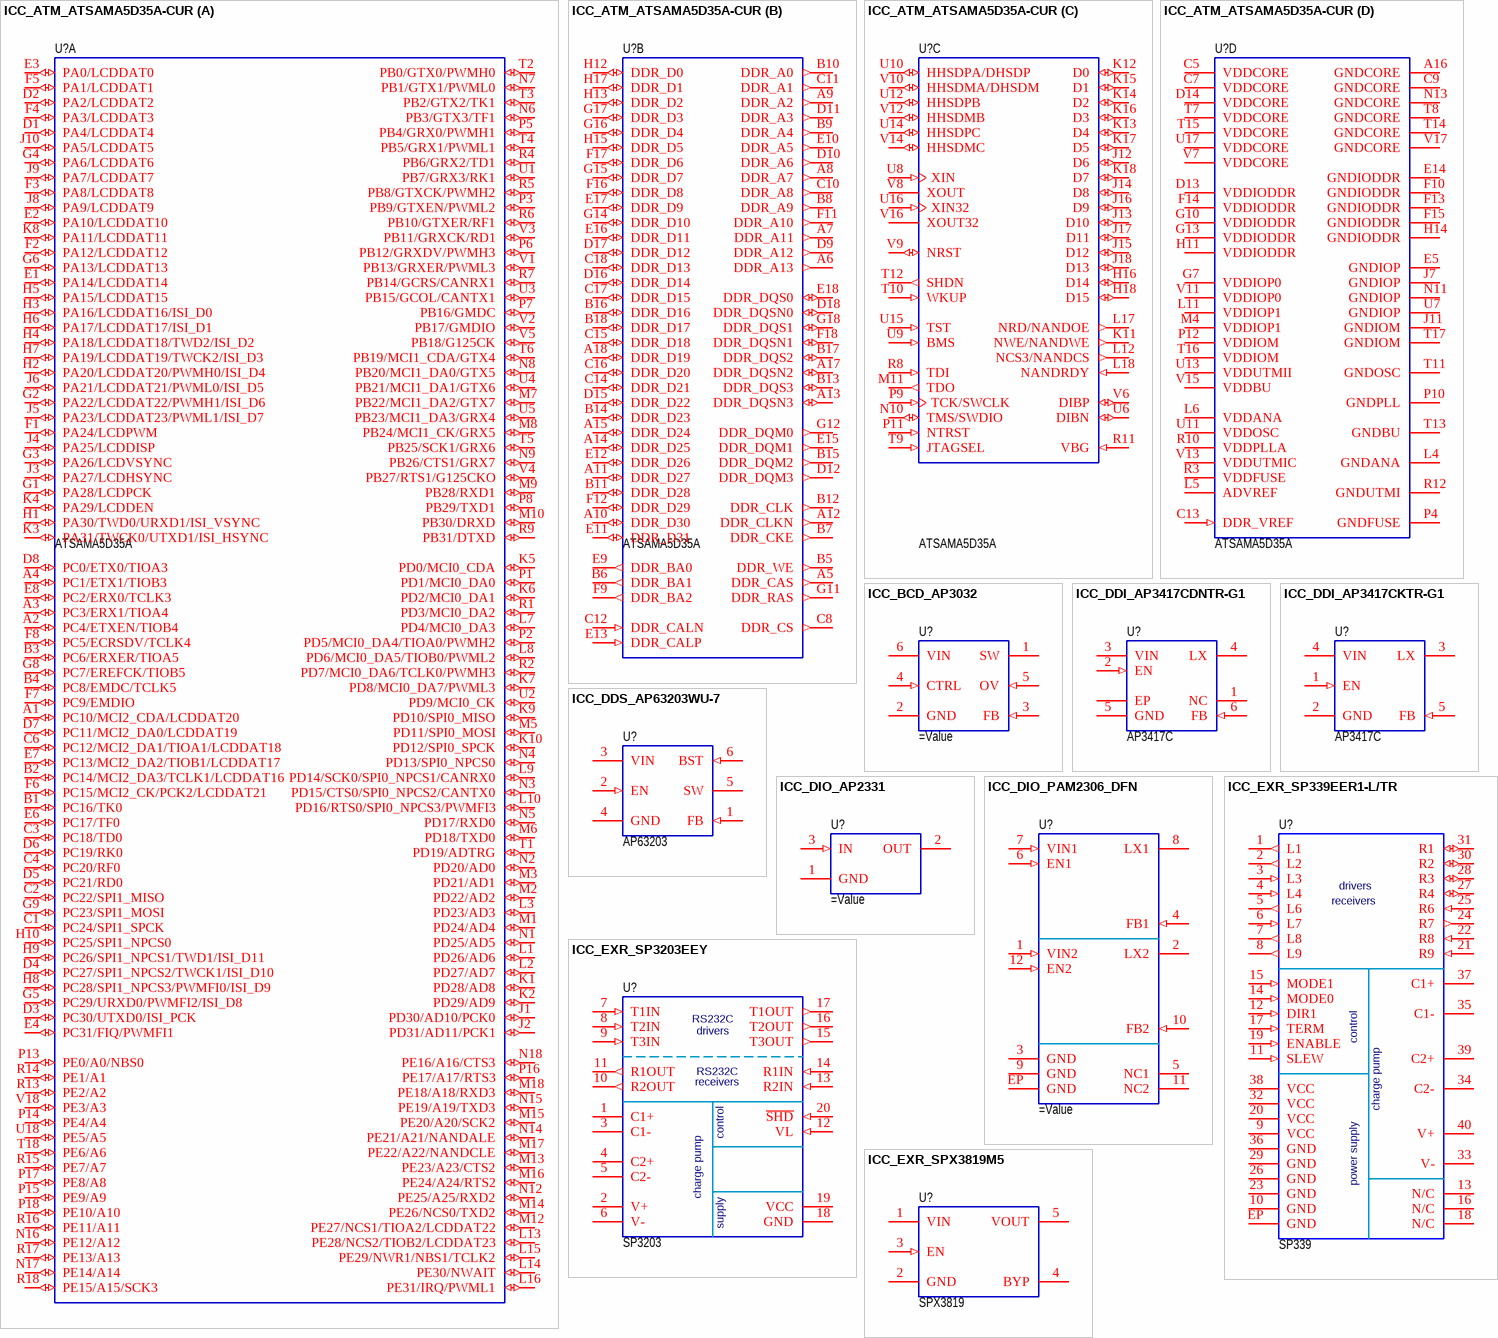
[diagram p4: symbols ICC_ATM_ATSAMA5D35A-CUR to ICC_EXR_SPX3819M5]

## ICC_ATM_ATSAMA5D35A-CUR
designator U?, comment ATSAMA5D35A
ICC; Manufacturer: Microchip Technology (Atmel); MPN: ATSAMA5D35A-CUR; Specification: SAMA5D3 Series, Cortex-A5, 536 MHz, LFBGA-324; Component Type: IC; Mounting Type: SMD; Operating Temperature: -40°C to +85°C; Package: LFBGA-324; Value: ATSAMA5D35A
part A pins: A1 PC10/MCI2_CDA/LCDDAT20 (io), A2 PC4/ETXEN/TIOB4 (io), A3 PC3/ERX1/TIOA4 (io), A4 PC1/ETX1/TIOB3 (io), B1 PC16/TK0 (io), B2 PC14/MCI2_DA3/TCLK1/LCDDAT16 (io), B3 PC6/ERXER/TIOA5 (io), B4 PC8/EMDC/TCLK5 (io), C1 PC24/SPI1_SPCK (io), C2 PC22/SPI1_MISO (io), C3 PC18/TD0 (io), C4 PC20/RF0 (io), C6 PC12/MCI2_DA1/TIOA1/LCDDAT18 (io), D1 PA4/LCDDAT4 (io), D2 PA2/LCDDAT2 (io), D3 PC30/UTXD0/ISI_PCK (io), D4 PC27/SPI1_NPCS2/TWCK1/ISI_D10 (io), D5 PC21/RD0 (io), D6 PC19/RK0 (io), D7 PC11/MCI2_DA0/LCDDAT19 (io), D8 PC0/ETX0/TIOA3 (io), E1 PA14/LCDDAT14 (io), E2 PA10/LCDDAT10 (io), E3 PA0/LCDDAT0 (io), E4 PC31/FIQ/PWMFI1 (io), E6 PC17/TF0 (io), E7 PC13/MCI2_DA2/TIOB1/LCDDAT17 (io), E8 PC2/ERX0/TCLK3 (io), F1 PA24/LCDPWM (io), F2 PA12/LCDDAT12 (io), F3 PA8/LCDDAT8 (io), F4 PA3/LCDDAT3 (io), F5 PA1/LCDDAT1 (io), F6 PC15/MCI2_CK/PCK2/LCDDAT21 (io), F7 PC9/EMDIO (io), F8 PC5/ECRSDV/TCLK4 (io), G1 PA28/LCDPCK (io), G2 PA22/LCDDAT22/PWMH1/ISI_D6 (io), G3 PA26/LCDVSYNC (io), G4 PA6/LCDDAT6 (io), G5 PC29/URXD0/PWMFI2/ISI_D8 (io), G6 PA13/LCDDAT13 (io), G8 PC7/EREFCK/TIOB5 (io), G9 PC23/SPI1_MOSI (io), H1 PA30/TWD0/URXD1/ISI_VSYNC (io), H2 PA20/LCDDAT20/PWMH0/ISI_D4 (io), H3 PA16/LCDDAT16/ISI_D0 (io), H4 PA18/LCDDAT18/TWD2/ISI_D2 (io), H5 PA15/LCDDAT15 (io), H6 PA17/LCDDAT17/ISI_D1 (io), H7 PA19/LCDDAT19/TWCK2/ISI_D3 (io), H8 PC28/SPI1_NPCS3/PWMFI0/ISI_D9 (io), H9 PC26/SPI1_NPCS1/TWD1/ISI_D11 (io), H10 PC25/SPI1_NPCS0 (io), J1 PD30/AD10/PCK0 (io), J2 PD31/AD11/PCK1 (io), J3 PA27/LCDHSYNC (io), J4 PA25/LCDDISP (io), J5 PA23/LCDDAT23/PWML1/ISI_D7 (io), J6 PA21/LCDDAT21/PWML0/ISI_D5 (io), J8 PA9/LCDDAT9 (io), J9 PA7/LCDDAT7 (io), J10 PA5/LCDDAT5 (io), K1 PD28/AD8 (io), K2 PD29/AD9 (io), K3 PA31/TWCK0/UTXD1/ISI_HSYNC (io), K4 PA29/LCDDEN (io), K5 PD0/MCI0_CDA (io), K6 PD2/MCI0_DA1 (io), K7 PD8/MCI0_DA7/PWML3 (io), K8 PA11/LCDDAT11 (io), K9 PD10/SPI0_MISO (io), K10 PD12/SPI0_SPCK (io), L1 PD26/AD6 (io), L2 PD27/AD7 (io), L3 PD23/AD3 (io), L7 PD4/MCI0_DA3 (io), L8 PD6/MCI0_DA5/TIOB0/PWML2 (io), L9 PD14/SCK0/SPI0_NPCS1/CANRX0 (io), L10 PD16/RTS0/SPI0_NPCS3/PWMFI3 (io), L13 PE28/NCS2/TIOB2/LCDDAT23 (io), L14 PE30/NWAIT (io), L15 PE29/NWR1/NBS1/TCLK2 (io), L16 PE31/IRQ/PWML1 (io), M1 PD24/AD4 (io), M2 PD22/AD2 (io), M3 PD21/AD1 (io), M5 PD11/SPI0_MOSI (io), M6 PD18/TXD0 (io), M7 PB22/MCI1_DA2/GTX7 (io), M8 PB24/MCI1_CK/GRX5 (io), M9 PB28/RXD1 (io), M10 PB30/DRXD (io), M12 PE27/NCS1/TIOA2/LCDDAT22 (io), M13 PE23/A23/CTS2 (io), M14 PE26/NCS0/TXD2 (io), M15 PE20/A20/SCK2 (io), M16 PE24/A24/RTS2 (io), M17 PE22/A22/NANDCLE (io), M18 PE18/A18/RXD3 (io), N1 PD25/AD5 (io), N2 PD20/AD0 (io), N3 PD15/CTS0/SPI0_NPCS2/CANTX0 (io), N4 PD13/SPI0_NPCS0 (io), N5 PD17/RXD0 (io), N6 PB3/GTX3/TF1 (io), N7 PB1/GTX1/PWML0 (io), N8 PB20/MCI1_DA0/GTX5 (io), N9 PB26/CTS1/GRX7 (io), N12 PE25/A25/RXD2 (io), N14 PE21/A21/NANDALE (io), N15 PE19/A19/TXD3 (io), N16 PE12/A12 (io), N17 PE14/A14 (io), N18 PE16/A16/CTS3 (io), P1 PD1/MCI0_DA0 (io), P2 PD5/MCI0_DA4/TIOA0/PWMH2 (io), P3 PB9/GTXEN/PWML2 (io), P5 PB4/GRX0/PWMH1 (io), P6 PB12/GRXDV/PWMH3 (io), P7 PB16/GMDC (io), P8 PB29/TXD1 (io), P13 PE0/A0/NBS0 (io), P14 PE4/A4 (io), P15 PE9/A9 (io), P16 PE17/A17/RTS3 (io), P17 PE8/A8 (io), P18 PE10/A10 (io), R1 PD3/MCI0_DA2 (io), R2 PD7/MCI0_DA6/TCLK0/PWMH3 (io), R4 PB6/GRX2/TD1 (io), R5 PB8/GTXCK/PWMH2 (io), R6 PB10/GTXER/RF1 (io), R7 PB14/GCRS/CANRX1 (io), R9 PB31/DTXD (io), R13 PE2/A2 (io), R14 PE1/A1 (io), R15 PE7/A7 (io), R16 PE11/A11 (io), R17 PE13/A13 (io), R18 PE15/A15/SCK3 (io), T1 PD19/ADTRG (io), T2 PB0/GTX0/PWMH0 (io), T3 PB2/GTX2/TK1 (io), T4 PB5/GRX1/PWML1 (io), T5 PB25/SCK1/GRX6 (io), T6 PB19/MCI1_CDA/GTX4 (io), T18 PE6/A6 (io), U1 PB7/GRX3/RK1 (io), U2 PD9/MCI0_CK (io), U3 PB15/GCOL/CANTX1 (io), U4 PB21/MCI1_DA1/GTX6 (io), U5 PB23/MCI1_DA3/GRX4 (io), U18 PE5/A5 (io), V1 PB13/GRXER/PWML3 (io), V2 PB17/GMDIO (io), V3 PB11/GRXCK/RD1 (io), V4 PB27/RTS1/G125CKO (io), V5 PB18/G125CK (io), V18 PE3/A3 (io)
part B pins: A5 DDR_CAS (out) "Row and Column Signal", A6 DDR_A13 (out) "DDR2 Address Bus", A7 DDR_A11 (out) "DDR2 Address Bus", A8 DDR_A7 (out) "DDR2 Address Bus", A9 DDR_A2 (out) "DDR2 Address Bus", A10 DDR_D30 (io) "DDR2 Data Bus", A11 DDR_D27 (io) "DDR2 Data Bus", A12 DDR_CLKN (out) "DDR2 differential clock", A13 DDR_DQSN3 (io) "DQSN must be connected to DDR_VREF for DDR2 memories", A14 DDR_D25 (io) "DDR2 Data Bus", A15 DDR_D24 (io) "DDR2 Data Bus", A17 DDR_DQSN2 (io) "DQSN must be connected to DDR_VREF for DDR2 memories", A18 DDR_D19 (io) "DDR2 Data Bus", B5 DDR_WE (out) "DDR2 Write Enable", B6 DDR_BA1 (out) "Bank Select", B7 DDR_CKE (out) "DDR2 Clock Enable", B8 DDR_A9 (out) "DDR2 Address Bus", B9 DDR_A4 (out) "DDR2 Address Bus", B10 DDR_A0 (out) "DDR2 Address Bus", B11 DDR_D28 (io) "DDR2 Data Bus", B12 DDR_CLK (out) "DDR2 differential clock", B13 DDR_DQS3 (io) "Differential Data Strobe", B14 DDR_D23 (io) "DDR2 Data Bus", B15 DDR_DQM2 (out) "Write Data Mask", B16 DDR_D16 (io) "DDR2 Data Bus", B17 DDR_DQS2 (io) "Differential Data Strobe", B18 DDR_D17 (io) "DDR2 Data Bus", C8 DDR_CS (out) "DDR2 Controller Chip Select", C10 DDR_A8 (out) "DDR2 Address Bus", C11 DDR_A1 (out) "DDR2 Address Bus", C12 DDR_CALN (in) "Negative Calibration Reference", C14 DDR_D21 (io) "DDR2 Data Bus", C15 DDR_D18 (io) "DDR2 Data Bus", C16 DDR_D20 (io) "DDR2 Data Bus", C17 DDR_D15 (io) "DDR2 Data Bus", C18 DDR_D13 (io) "DDR2 Data Bus", D9 DDR_A12 (out) "DDR2 Address Bus", D10 DDR_A6 (out) "DDR2 Address Bus", D11 DDR_A3 (out) "DDR2 Address Bus", D12 DDR_DQM3 (out) "Write Data Mask", D15 DDR_D22 (io) "DDR2 Data Bus", D16 DDR_D14 (io) "DDR2 Data Bus", D17 DDR_D12 (io) "DDR2 Data Bus", D18 DDR_DQSN0 (io) "DQSN must be connected to DDR_VREF for DDR2 memories", E9 DDR_BA0 (out) "Bank Select", E10 DDR_A5 (out) "DDR2 Address Bus", E11 DDR_D31 (io) "DDR2 Data Bus", E12 DDR_D26 (io) "DDR2 Data Bus", E13 DDR_CALP (in) "Positive Calibration Reference", E15 DDR_DQM1 (out) "Write Data Mask", E16 DDR_D11 (io) "DDR2 Data Bus", E17 DDR_D9 (io) "DDR2 Data Bus", E18 DDR_DQS0 (io) "Differential Data Strobe", F9 DDR_BA2 (out) "Bank Select", F11 DDR_A10 (out) "DDR2 Address Bus", F12 DDR_D29 (io) "DDR2 Data Bus", F16 DDR_D8 (io) "DDR2 Data Bus", F17 DDR_D6 (io) "DDR2 Data Bus", F18 DDR_DQSN1 (io) "DQSN must be connected to DDR_VREF for DDR2 memories", G11 DDR_RAS (out) "Row and Column Signal", G12 DDR_DQM0 (out) "Write Data Mask", G14 DDR_D10 (io) "DDR2 Data Bus", G15 DDR_D7 (io) "DDR2 Data Bus", G16 DDR_D4 (io) "DDR2 Data Bus", G17 DDR_D3 (io) "DDR2 Data Bus", G18 DDR_DQS1 (io) "Differential Data Strobe", H12 DDR_D0 (io) "DDR2 Data Bus", H13 DDR_D2 (io) "DDR2 Data Bus", H15 DDR_D5 (io) "DDR2 Data Bus", H17 DDR_D1 (io) "DDR2 Data Bus"
part C pins: H16 D14 (io) "Data Bus", H18 D15 (io) "Data Bus", J12 D6 (io) "Data Bus", J13 D10 (io) "Data Bus", J14 D8 (io) "Data Bus", J15 D12 (io) "Data Bus", J16 D9 (io) "Data Bus", J17 D11 (io) "Data Bus", J18 D13 (io) "Data Bus", K11 NWE/NANDWE (out), K12 D0 (io) "Data Bus", K13 D4 (io) "Data Bus", K14 D2 (io) "Data Bus", K15 D1 (io) "Data Bus", K16 D3 (io) "Data Bus", K17 D5 (io) "Data Bus", K18 D7 (io) "Data Bus", L12 NCS3/NANDCS (out), L17 NRD/NANDOE (out), L18 NANDRDY (in), M11 TDO (out) "Test Data Out", N10 TMS/SWDIO (io) "Test Mode Select", P9 TCK/SWCLK (in) "Test Clock", P11 NTRST (in) "Test Reset Signal", R8 TDI (in) "Test Data In", R11 VBG (in) "Bias Voltage Reference for USB", T9 JTAGSEL (in) "JTAG Selection", T10 WKUP (in) "Wake-Up Input", T12 SHDN (out) "Shut-Down Control", U6 DIBN (io) "Soft Modem Signal", U8 XIN (in) "Main Oscillator Input", U9 BMS (in) "Boot Mode Select", U10 HHSDPA/DHSDP (io), U12 HHSDPB (io) "USB Host Port B High Speed Data +", U14 HHSDPC (io) "USB Host Port C High Speed Data +", U15 TST (in) "Test Mode Select", U16 XIN32 (in) "Slow Clock Oscillator Input", V6 DIBP (io) "Soft Modem Signal", V8 XOUT "Main Oscillator Output", V9 NRST (io) "Microcontroller Reset", V10 HHSDMA/DHSDM (io), V12 HHSDMB (io) "USB Host Port B High Speed Data -", V14 HHSDMC (io) "USB Host Port C High Speed Data -", V16 XOUT32 "Slow Clock Oscillator Output"
part D pins: A16 GNDCORE (power), C5 VDDCORE (power), C7 VDDCORE (power), C9 GNDCORE (power), C13 DDR_VREF (in) "Reference Voltage", D13 VDDIODDR (power), D14 VDDCORE (power), E5 GNDIOP (power), E14 GNDIODDR (power), F10 GNDIODDR (power), F13 GNDIODDR (power), F14 VDDIODDR (power), F15 GNDIODDR (power), G7 VDDIOP0 (power), G10 VDDIODDR (power), G13 VDDIODDR (power), H11 VDDIODDR (power), H14 GNDIODDR (power), J7 GNDIOP (power), J11 GNDIOM (power), L4 GNDANA (power), L5 ADVREF (power), L6 VDDANA (power), L11 VDDIOP1 (power), M4 VDDIOP1 (power), N11 GNDIOP (power), N13 GNDCORE (power), P4 GNDFUSE (power), P10 GNDPLL (power), P12 VDDIOM (power), R3 VDDFUSE (power), R10 VDDPLLA (power), R12 GNDUTMI (power), T7 VDDCORE (power), T8 GNDCORE (power), T11 GNDOSC (power), T13 GNDBU (power), T14 GNDCORE (power), T15 VDDCORE (power), T16 VDDIOM (power), T17 GNDIOM (power), U7 GNDIOP (power), U11 VDDOSC (power), U13 VDDUTMII (power), U17 VDDCORE (power), V7 VDDCORE (power), V11 VDDIOP0 (power), V13 VDDUTMIC (power), V15 VDDBU (power), V17 GNDCORE (power)

## ICC_BCD_AP3032
designator U?
ICC; Step-up Converter;
pins: 1 SW (oc), 2 GND (power), 3 FB (in), 4 CTRL (in), 5 OV (in), 6 VIN (power)

## ICC_DDI_AP3417CDNTR-G1
designator U?, comment AP3417C
ICC; Manufacturer: Diodes Incorporated; MPN: AP3417CDNTR-G1; Specification: Synchronous step-down DC-DC converter, 1A, 1.5MHz, W-DFN2020-6 package; Component Type: IC; Mounting Type: SMD; Operating Temperature: -40°C to +85°C; Package: W-DFN2020-6; Value: AP3417C
footprint W-DFN2020-6 (Footprint not found)
pins: 1 NC, 2 EN (in), 3 VIN (power), 4 LX (power), 5 GND (power), 6 FB (in), EP (power)

## ICC_DDI_AP3417CKTR-G1
designator U?, comment AP3417C
ICC; Manufacturer: Diodes Incorporated; MPN: AP3417CKTR-G1; Specification: Synchronous step-down DC-DC converter, 1A, 1.5MHz, SOT-23-5 package; Component Type: IC; Mounting Type: SMD; Operating Temperature: -40°C to +85°C; Package: SOT-23-5; Value: AP3417C
footprint SOT-23-5 (Footprint not found)
pins: 1 EN (in), 2 GND (power), 3 LX (power), 4 VIN (power), 5 FB (in)

## ICC_DDS_AP63203WU-7
designator U?, comment AP63203
ICC; Manufacturer: Diodes Incorporated; MPN: AP63203WU-7; Specification: Synchronous buck converter with enhanced EMI reduction, VOUT 3.3V, VIN 3.8V - 32V, 2A, 1.1MHz, TSOT26 package; Component Type: IC; Mounting Type: SMD; Operating Temperature: -40°C to +85°C; Package: TSOT26; Value: AP63203; Replacement: ?; System: ?
footprint ICC_TSOT26 (Footprint not found)
pins: 1 FB (in), 2 EN (in), 3 VIN (power), 4 GND (power), 5 SW (power), 6 BST (in)

## ICC_DIO_AP2331
designator U?
IC; Power Switcher;
pins: 1 GND (power), 2 OUT (power), 3 IN (in)

## ICC_DIO_PAM2306_DFN
designator U?
IC; Step-down Converter;
pins: 1 VIN2 (in), 2 LX2 (power), 3 GND (power), 4 FB1 (in), 5 NC1, 6 EN1 (in), 7 VIN1 (in), 8 LX1 (power), 9 GND (power), 10 FB2 (in), 11 NC2, 12 EN2 (in), EP GND (power)

## ICC_EXR_SP339EER1-L/TR
designator U?, comment SP339
ICC; Manufacturer: MaxLinear (Exar); MPN: SP339EER1-L/TR; Specification: RS-232/RS-485/RS-422 transceiver, QFN40 package; Mounting Type: SMD; Operating Temperature: -40°C to +85°C; Package: QFN40; Value: SP339; Component Type: IC
footprint ICC_QFN40_600X600X100P50 (QFN, 40-Leads, Body 6,00x6,00mm, Pitch 0,50mm, Thermal Pad 4,65x4,65mm, IPC Medium Density)
pins: 1 L1 (out), 2 L2 (out), 3 L3 (in), 4 L4 (in), 5 L6 (out), 6 L7 (in), 7 L8 (out), 8 L9 (out), 9 VCC (power), 10 GND (power), 11 SLEW (in), 12 DIR1 (in), 13 N/C, 14 MODE0 (in), 15 MODE1 (in), 16 N/C, 17 TERM (in), 18 N/C, 19 ENABLE (in), 20 VCC (power), 21 R9 (in), 22 R8 (in), 23 GND (power), 24 R7 (out), 25 R6 (in), 26 GND (power), 27 R4 (io), 28 R3 (io), 29 GND (power), 30 R2 (io), 31 R1 (io), 32 VCC (power), 33 V-, 34 C2-, 35 C1-, 36 GND (power), 37 C1+, 38 VCC (power), 39 C2+, 40 V+, EP GND (power)
text: drivers; receivers; control; charge pump; power supply

## ICC_EXR_SP3203EEY
designator U?, comment SP3203
ICC; Manufacturer: MaxLinear (Exar); MPN: SP3203EEY-L; Specification: 3V RS-232 Serial Transceiver with Logic Selector and 15kV ESD Protection; Component Type: IC; Mounting Type: SMD; Operating Temperature: -40°C to +85°C; Package: TSSOP20; Value: SP3203
footprint ICC_TSSOP20 (Footprint not found)
pins: 1 C1+, 2 V+, 3 C1-, 4 C2+, 5 C2-, 6 V-, 7 T1IN (in), 8 T2IN (in), 9 T3IN (in), 10 R2OUT (out), 11 R1OUT (out), 12 VL (in), 13 R2IN (in), 14 R1IN (in), 15 T3OUT (out), 16 T2OUT (out), 17 T1OUT (out), 18 GND (power), 19 VCC (power), 20 ~{SHD} (in)
text: RS232C; drivers; receivers; control; charge pump; supply

## ICC_EXR_SPX3819M5
designator U?, comment SPX3819
ICC; Manufacturer: MaxLinear (Exar); Component Type: IC; Mounting Type: SMD; Value: SPX3819
footprint SOT-23-5 (Footprint not found)
pins: 1 VIN (power), 2 GND (power), 3 EN (in), 4 BYP, 5 VOUT (power)

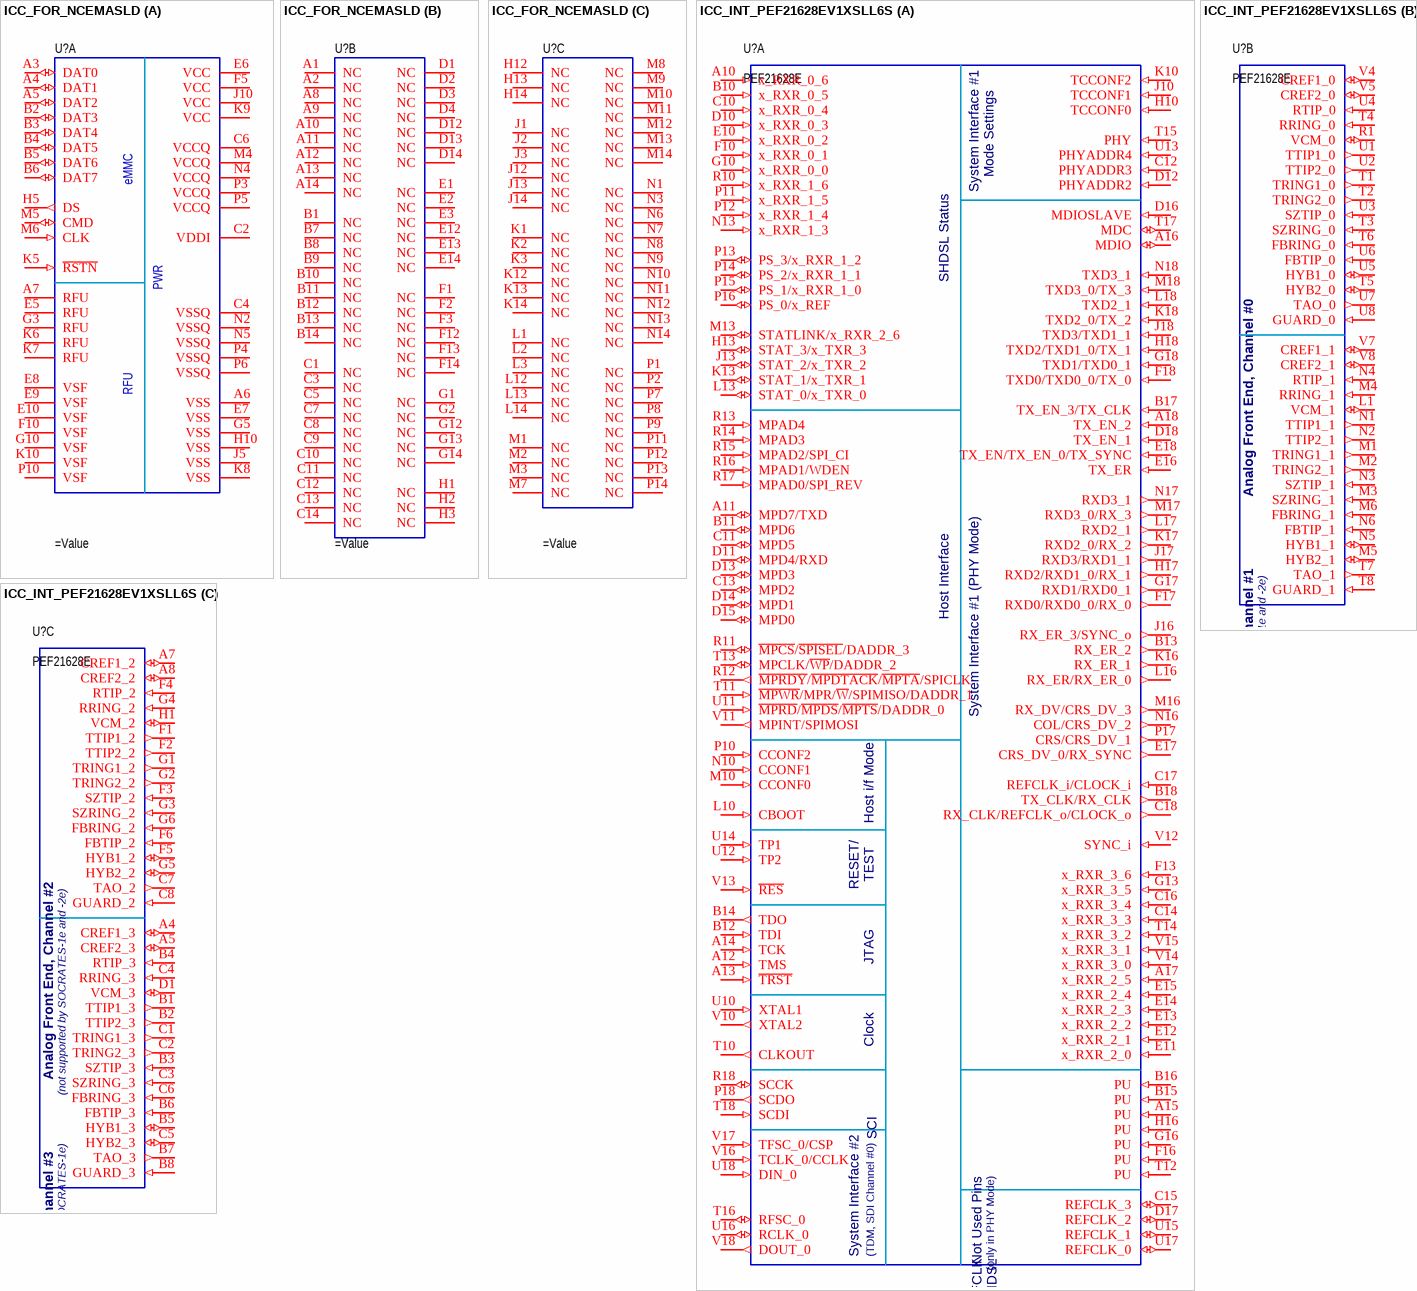
[diagram p5: symbols ICC_FOR_NCEMASLD to ICC_INT_PEF21628EV1XSLL6S]

## ICC_FOR_NCEMASLD
designator U?
IC; eMMC Memory;
part A pins: A3 DAT0 (io), A4 DAT1 (io), A5 DAT2 (io), A6 VSS (power), A7 RFU, B2 DAT3 (io), B3 DAT4 (io), B4 DAT5 (io), B5 DAT6 (io), B6 DAT7 (io), C2 VDDI (power), C4 VSSQ (power), C6 VCCQ (power), E5 RFU, E6 VCC (power), E7 VSS (power), E8 VSF, E9 VSF, E10 VSF, F5 VCC (power), F10 VSF, G3 RFU, G5 VSS (power), G10 VSF, H5 DS (out), H10 VSS (power), J5 VSS (power), J10 VCC (power), K5 ~{RSTN} (in), K6 RFU, K7 RFU, K8 VSS (power), K9 VCC (power), K10 VSF, M4 VCCQ (power), M5 CMD (io), M6 CLK (in), N2 VSSQ (power), N4 VCCQ (power), N5 VSSQ (power), P3 VCCQ (power), P4 VSSQ (power), P5 VCCQ (power), P6 VSSQ (power), P10 VSF
part B pins: A1 NC, A2 NC, A8 NC, A9 NC, A10 NC, A11 NC, A12 NC, A13 NC, A14 NC, B1 NC, B7 NC, B8 NC, B9 NC, B10 NC, B11 NC, B12 NC, B13 NC, B14 NC, C1 NC, C3 NC, C5 NC, C7 NC, C8 NC, C9 NC, C10 NC, C11 NC, C12 NC, C13 NC, C14 NC, D1 NC, D2 NC, D3 NC, D4 NC, D12 NC, D13 NC, D14 NC, E1 NC, E2 NC, E3 NC, E12 NC, E13 NC, E14 NC, F1 NC, F2 NC, F3 NC, F12 NC, F13 NC, F14 NC, G1 NC, G2 NC, G12 NC, G13 NC, G14 NC, H1 NC, H2 NC, H3 NC
part C pins: H12 NC, H13 NC, H14 NC, J1 NC, J2 NC, J3 NC, J12 NC, J13 NC, J14 NC, K1 NC, K2 NC, K3 NC, K12 NC, K13 NC, K14 NC, L1 NC, L2 NC, L3 NC, L12 NC, L13 NC, L14 NC, M1 NC, M2 NC, M3 NC, M7 NC, M8 NC, M9 NC, M10 NC, M11 NC, M12 NC, M13 NC, M14 NC, N1 NC, N3 NC, N6 NC, N7 NC, N8 NC, N9 NC, N10 NC, N11 NC, N12 NC, N13 NC, N14 NC, P1 NC, P2 NC, P7 NC, P8 NC, P9 NC, P11 NC, P12 NC, P13 NC, P14 NC
part A text: eMMC; PWR

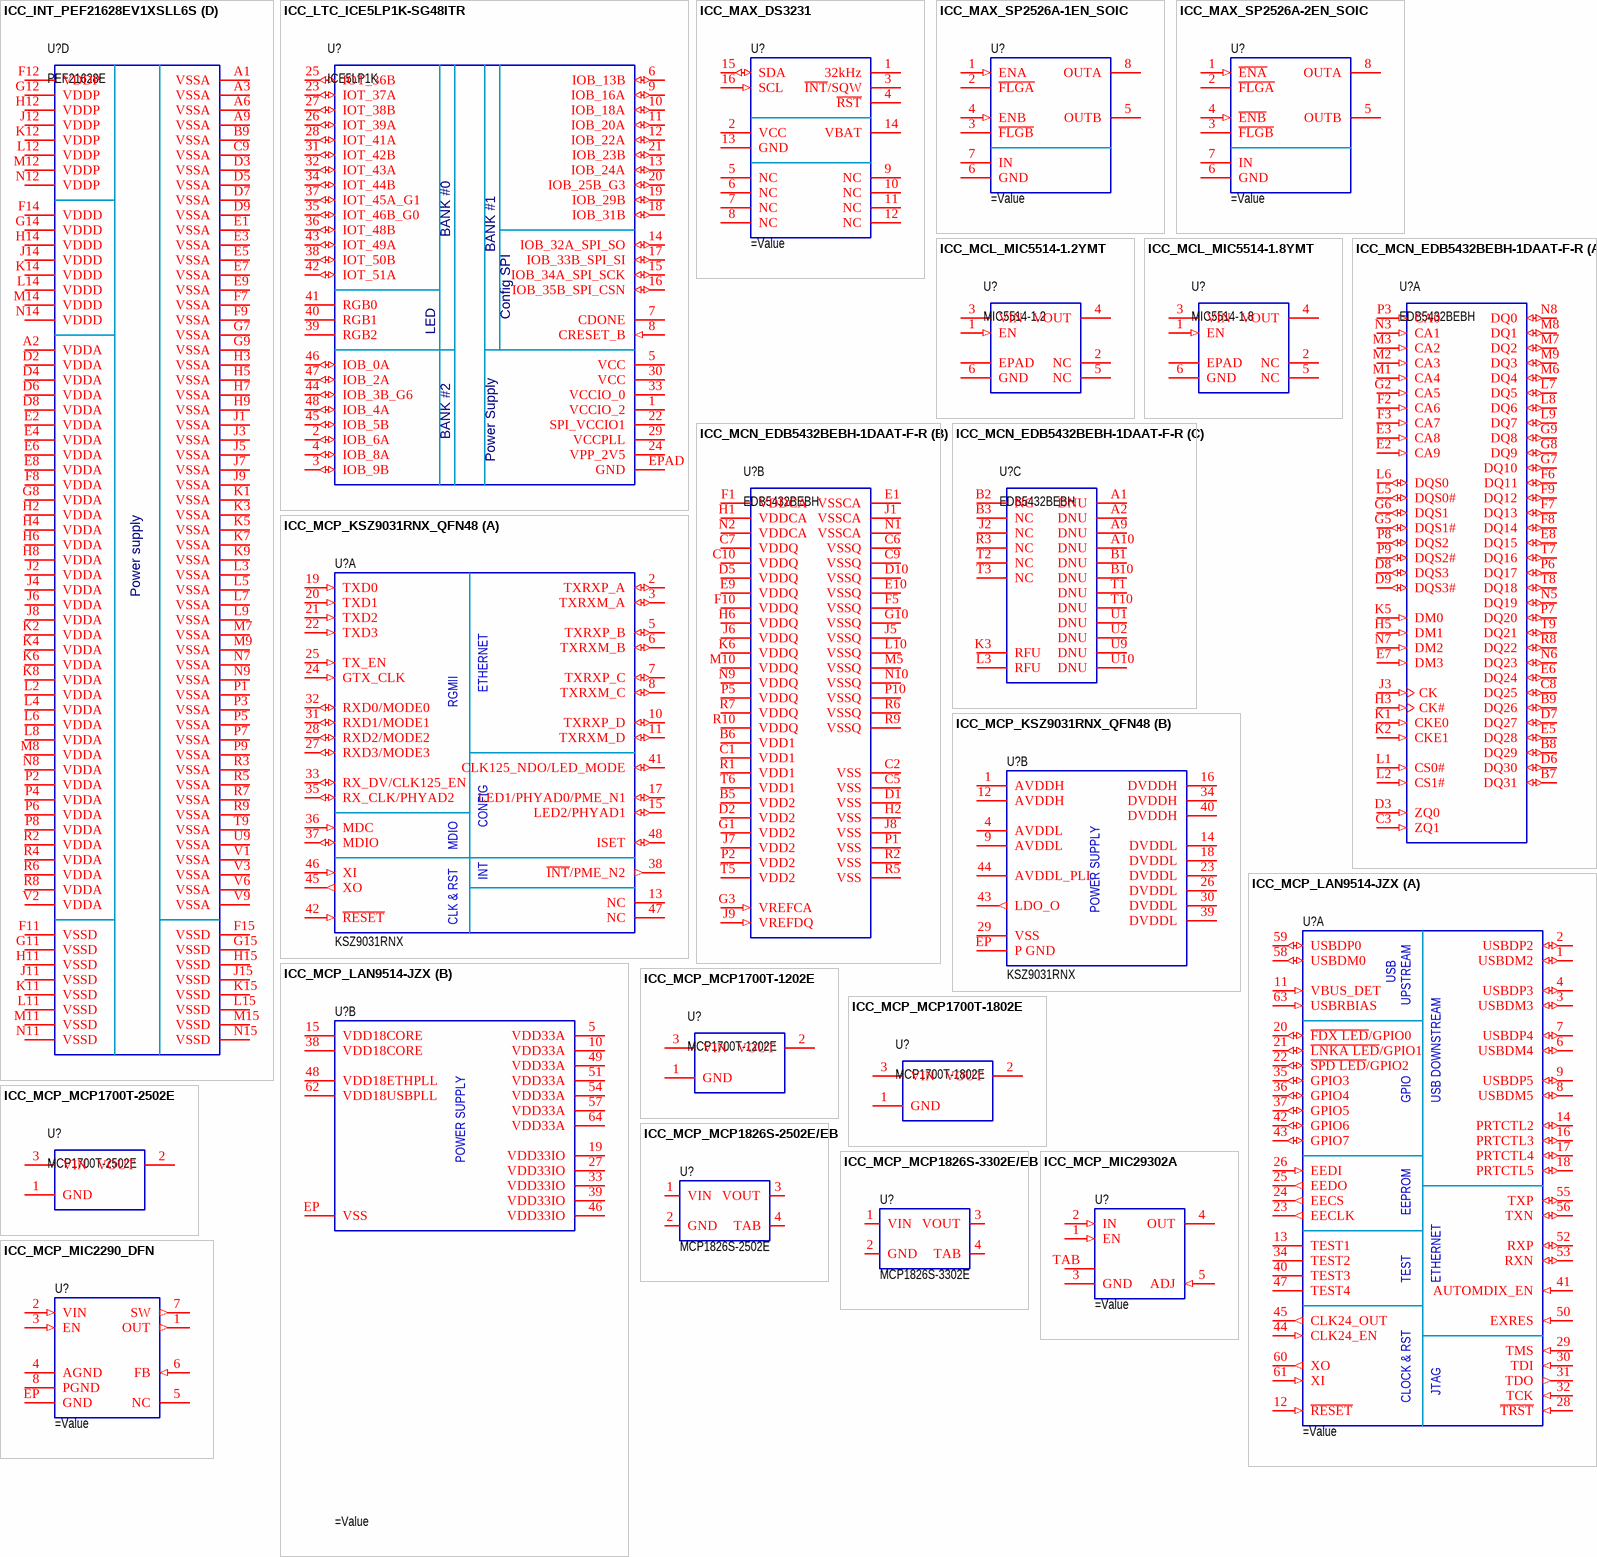
[diagram p6: symbols ICC_INT_PEF21628EV1XSLL6S to ICC_MCP_MIC29302A]

## ICC_INT_PEF21628EV1XSLL6S
designator U?, comment PEF21628E
ICC; Manufacturer: Intel (Lantiq); MPN: PEF21628EV1XSLL6S; Specification: SHDSL SoC Transceiver for EFM, SOCRATES-1e, 1 channel, LBGA-324; Component Type: IC; Mounting Type: SMD; Operating Temperature: -40°C to +85°C; Package: LBGA-324; Value: PEF21628E
footprint ICC_LBGA324_1900X1900X150P100 (BGA, 324-pin, Body 19.00 x 19.00 x 1.50 mm, Pitch 1.00mm)
part A pins: A10 x_RXR_0_6 (in), A11 MPD7/TXD (io), A12 TMS (in), A13 ~{TRST} (in), A14 TCK (in), A15 PU (in), A16 MDIO (io), A17 x_RXR_2_5 (in), A18 TX_EN_2 (in), B10 x_RXR_0_5 (in), B11 MPD6 (io), B12 TDI (in), B13 RX_ER_2 (out), B14 TDO (out), B15 PU (in), B16 PU (in), B17 TX_EN_3/TX_CLK (in), B18 TX_CLK/RX_CLK (out), C10 x_RXR_0_4 (in), C11 MPD5 (io), C12 PHYADDR3 (in), C13 MPD2 (io), C14 x_RXR_3_3 (in), C15 REFCLK_3 (io), C16 x_RXR_3_4 (in), C17 REFCLK_i/CLOCK_i (in), C18 RX_CLK/REFCLK_o/CLOCK_o (out), D10 x_RXR_0_3 (in), D11 MPD4/RXD (io), D12 PHYADDR2 (in), D13 MPD3 (io), D14 MPD1 (io), D15 MPD0 (io), D16 MDIOSLAVE (in), D17 REFCLK_2 (io), D18 TX_EN_1 (in), E10 x_RXR_0_2 (in), E11 x_RXR_2_0 (in), E12 x_RXR_2_1 (in), E13 x_RXR_2_2 (in), E14 x_RXR_2_3 (in), E15 x_RXR_2_4 (in), E16 TX_ER (in), E17 CRS_DV_0/RX_SYNC (out), E18 TX_EN/TX_EN_0/TX_SYNC (in), F10 x_RXR_0_1 (in), F13 x_RXR_3_6 (in), F16 PU (in), F17 RXD0/RXD0_0/RX_0 (out), F18 TXD0/TXD0_0/TX_0 (in), G10 x_RXR_0_0 (in), G13 x_RXR_3_5 (in), G16 PU (in), G17 RXD1/RXD0_1 (out), G18 TXD1/TXD0_1 (in), H10 TCCONF0 (in), H13 STAT_3/x_TXR_3 (io), H16 PU (in), H17 RXD2/RXD1_0/RX_1 (out), H18 TXD2/TXD1_0/TX_1 (in), J10 TCCONF1 (in), J13 STAT_2/x_TXR_2 (io), J16 RX_ER_3/SYNC_o (out), J17 RXD3/RXD1_1 (out), J18 TXD3/TXD1_1 (in), K10 TCCONF2 (in), K13 STAT_1/x_TXR_1 (io), K16 RX_ER_1 (out), K17 RXD2_0/RX_2 (out), K18 TXD2_0/TX_2 (in), L10 CBOOT (in), L13 STAT_0/x_TXR_0 (io), L16 RX_ER/RX_ER_0 (out), L17 RXD2_1 (out), L18 TXD2_1 (in), M10 CCONF0 (in), M13 STATLINK/x_RXR_2_6 (io), M16 RX_DV/CRS_DV_3 (out), M17 RXD3_0/RX_3 (out), M18 TXD3_0/TX_3 (in), N10 CCONF1 (in), N13 x_RXR_1_3 (in), N16 COL/CRS_DV_2 (out), N17 RXD3_1 (out), N18 TXD3_1 (in), P10 CCONF2 (in), P11 x_RXR_1_5 (in), P12 x_RXR_1_4 (in), P13 PS_3/x_RXR_1_2 (io), P14 PS_2/x_RXR_1_1 (io), P15 PS_1/x_RXR_1_0 (io), P16 PS_0/x_REF (io), P17 CRS/CRS_DV_1 (out), P18 SCDO (out), R10 x_RXR_1_6 (in), R11 ~{MPCS}/~{SPISEL}/DADDR_3 (io), R12 ~{MPRDY}/~{MPDTACK}/~{MPTA}/SPICLK (out), R13 MPAD4 (in), R14 MPAD3 (in), R15 MPAD2/SPI_CI (in), R16 MPAD1/WDEN (in), R17 MPAD0/SPI_REV (in), R18 SCCK (io), T10 CLKOUT (out), T11 ~{MPWR}/MPR/~{W}/SPIMISO/DADDR_1 (in), T12 PU (in), T13 MPCLK/~{WP}/DADDR_2 (io), T14 x_RXR_3_2 (in), T15 PHY (in), T16 RFSC_0 (io), T17 MDC (io), T18 SCDI (in), U10 XTAL1 (in), U11 ~{MPRD}/~{MPDS}/~{MPTS}/DADDR_0 (in), U12 TP2 (in), U13 PHYADDR4 (in), U14 TP1 (in), U15 REFCLK_1 (io), U16 RCLK_0 (io), U17 REFCLK_0 (io), U18 DIN_0 (in), V10 XTAL2 (out), V11 MPINT/SPIMOSI (out), V12 SYNC_i (in), V13 ~{RES} (in), V14 x_RXR_3_0 (in), V15 x_RXR_3_1 (in), V16 TCLK_0/CCLK (in), V17 TFSC_0/CSP (in), V18 DOUT_0 (out)
part B pins: L1 VCM_1 (io), M1 TRING1_1 (out), M2 TRING2_1 (out), M3 SZRING_1 (in), M4 RRING_1 (in), M5 HYB2_1 (io), M6 FBRING_1 (in), N1 TTIP1_1 (out), N2 TTIP2_1 (out), N3 SZTIP_1 (in), N4 RTIP_1 (in), N5 HYB1_1 (io), N6 FBTIP_1 (in), R1 VCM_0 (io), T1 TRING1_0 (out), T2 TRING2_0 (out), T3 SZRING_0 (in), T4 RRING_0 (in), T5 HYB2_0 (io), T6 FBRING_0 (in), T7 TAO_1 (out), T8 GUARD_1 (in), U1 TTIP1_0 (out), U2 TTIP2_0 (out), U3 SZTIP_0 (in), U4 RTIP_0 (in), U5 HYB1_0 (io), U6 FBTIP_0 (in), U7 TAO_0 (out), U8 GUARD_0 (in), V4 CREF1_0 (io), V5 CREF2_0 (io), V7 CREF1_1 (io), V8 CREF2_1 (io)
part C pins: A4 CREF1_3 (io), A5 CREF2_3 (io), A7 CREF1_2 (io), A8 CREF2_2 (io), B1 TTIP1_3 (out), B2 TTIP2_3 (out), B3 SZTIP_3 (in), B4 RTIP_3 (in), B5 HYB1_3 (io), B6 FBTIP_3 (in), B7 TAO_3 (out), B8 GUARD_3 (in), C1 TRING1_3 (out), C2 TRING2_3 (out), C3 SZRING_3 (in), C4 RRING_3 (in), C5 HYB2_3 (io), C6 FBRING_3 (in), C7 TAO_2 (out), C8 GUARD_2 (in), D1 VCM_3 (io), F1 TTIP1_2 (out), F2 TTIP2_2 (out), F3 SZTIP_2 (in), F4 RTIP_2 (in), F5 HYB1_2 (io), F6 FBTIP_2 (in), G1 TRING1_2 (out), G2 TRING2_2 (out), G3 SZRING_2 (in), G4 RRING_2 (in), G5 HYB2_2 (io), G6 FBRING_2 (in), H1 VCM_2 (io)
part D pins: A1 VSSA (power), A2 VDDA (power), A3 VSSA (power), A6 VSSA (power), A9 VSSA (power), B9 VSSA (power), C9 VSSA (power), D2 VDDA (power), D3 VSSA (power), D4 VDDA (power), D5 VSSA (power), D6 VDDA (power), D7 VSSA (power), D8 VDDA (power), D9 VSSA (power), E1 VSSA (power), E2 VDDA (power), E3 VSSA (power), E4 VDDA (power), E5 VSSA (power), E6 VDDA (power), E7 VSSA (power), E8 VDDA (power), E9 VSSA (power), F7 VSSA (power), F8 VDDA (power), F9 VSSA (power), F11 VSSD (power), F12 VDDP (power), F14 VDDD (power), F15 VSSD (power), G7 VSSA (power), G8 VDDA (power), G9 VSSA (power), G11 VSSD (power), G12 VDDP (power), G14 VDDD (power), G15 VSSD (power), H2 VDDA (power), H3 VSSA (power), H4 VDDA (power), H5 VSSA (power), H6 VDDA (power), H7 VSSA (power), H8 VDDA (power), H9 VSSA (power), H11 VSSD (power), H12 VDDP (power), H14 VDDD (power), H15 VSSD (power), J1 VSSA (power), J2 VDDA (power), J3 VSSA (power), J4 VDDA (power), J5 VSSA (power), J6 VDDA (power), J7 VSSA (power), J8 VDDA (power), J9 VSSA (power), J11 VSSD (power), J12 VDDP (power), J14 VDDD (power), J15 VSSD (power), K1 VSSA (power), K2 VDDA (power), K3 VSSA (power), K4 VDDA (power), K5 VSSA (power), K6 VDDA (power), K7 VSSA (power), K8 VDDA (power), K9 VSSA (power), K11 VSSD (power), K12 VDDP (power), K14 VDDD (power), K15 VSSD (power), L2 VDDA (power), L3 VSSA (power), L4 VDDA (power), L5 VSSA (power), L6 VDDA (power), L7 VSSA (power), L8 VDDA (power), L9 VSSA (power), L11 VSSD (power), L12 VDDP (power), L14 VDDD (power), L15 VSSD (power), M7 VSSA (power), M8 VDDA (power), M9 VSSA (power), M11 VSSD (power), M12 VDDP (power), M14 VDDD (power), M15 VSSD (power), N7 VSSA (power), N8 VDDA (power), N9 VSSA (power), N11 VSSD (power), N12 VDDP (power), N14 VDDD (power), N15 VSSD (power), P1 VSSA (power), P2 VDDA (power), P3 VSSA (power), P4 VDDA (power), P5 VSSA (power), P6 VDDA (power), P7 VSSA (power), P8 VDDA (power), P9 VSSA (power), R2 VDDA (power), R3 VSSA (power), R4 VDDA (power), R5 VSSA (power), R6 VDDA (power), R7 VSSA (power), R8 VDDA (power), R9 VSSA (power), T9 VSSA (power), U9 VSSA (power), V1 VSSA (power), V2 VDDA (power), V3 VSSA (power), V6 VSSA (power), V9 VSSA (power)
part A text: Mode Settings; System Interface #1; SHDSL Status; Host Interface; System Interface #1 (PHY Mode); Host i/f Mode; TEST; RESET/; JTAG; Clock; SCI; Not Used Pins; (only in PHY Mode); System Interface #2; (TDM, SDI Channel #0); REFCLK; SHDSL
part B text: Analog Front End, Channel #0; Analog Front End, Channel #1; (not supported by SOCRATES-1e and -2e)
part C text: Analog Front End, Channel #2; (not supported by SOCRATES-1e and -2e); (not supported by SOCRATES-1e); Analog Front End, Channel #3
part D text: Power supply

## ICC_LTC_ICE5LP1K-SG48ITR
designator U?, comment ICE5LP1K
ICC; Manufacturer: Lattice Semiconductor; MPN: ICE5LP1K-SG48ITR; Specification: iCE40 Ultra FPGA, 1100 Logic Cells, QFN48; Component Type: IC; Mounting Type: SMD; Operating Temperature: -40°C to +100°C; Package: QFN48; Value: ICE5LP1K
pins: 1 VCCIO_2 (power), 2 IOB_6A (io), 3 IOB_9B (io), 4 IOB_8A (io), 5 VCC (power), 6 IOB_13B (io), 7 CDONE (oc), 8 CRESET_B (in), 9 IOB_16A (io), 10 IOB_18A (io), 11 IOB_20A (io), 12 IOB_22A (io), 13 IOB_24A (io), 14 IOB_32A_SPI_SO (io), 15 IOB_34A_SPI_SCK (io), 16 IOB_35B_SPI_CSN (io), 17 IOB_33B_SPI_SI (io), 18 IOB_31B (io), 19 IOB_29B (io), 20 IOB_25B_G3 (io), 21 IOB_23B (io), 22 SPI_VCCIO1 (power), 23 IOT_37A (io), 24 VPP_2V5 (power), 25 IOT_36B (io), 26 IOT_39A (io), 27 IOT_38B (io), 28 IOT_41A (io), 29 VCCPLL (power), 30 VCC (power), 31 IOT_42B (io), 32 IOT_43A (io), 33 VCCIO_0 (power), 34 IOT_44B (io), 35 IOT_46B_G0 (io), 36 IOT_48B (io), 37 IOT_45A_G1 (io), 38 IOT_50B (io), 39 RGB2, 40 RGB1, 41 RGB0, 42 IOT_51A (io), 43 IOT_49A (io), 44 IOB_3B_G6 (io), 45 IOB_5B (io), 46 IOB_0A (io), 47 IOB_2A (io), 48 IOB_4A (io), EPAD GND (power)
text: BANK #0; BANK #1; Config SPI; LED; BANK #2; Power Supply

## ICC_MAX_DS3231
designator U?
IC; RTC;
pins: 1 32kHz (oc), 2 VCC (power), 3 ~{INT}/SQW (oc), 4 ~{RST} (oc), 5 NC, 6 NC, 7 NC, 8 NC, 9 NC, 10 NC, 11 NC, 12 NC, 13 GND (power), 14 VBAT (power), 15 SDA (io), 16 SCL (in)

## ICC_MAX_SP2526A-1EN_SOIC
designator U?
IC; USB Power Distribution Switch;
pins: 1 ENA (in), 2 ~{FLGA} (oc), 3 ~{FLGB} (oc), 4 ENB (in), 5 OUTB (power), 6 GND (power), 7 IN (power), 8 OUTA (power)

## ICC_MAX_SP2526A-2EN_SOIC
designator U?
IC; USB Power Distribution Switch;
pins: 1 ~{ENA} (in), 2 ~{FLGA} (oc), 3 ~{FLGB} (oc), 4 ~{ENB} (in), 5 OUTB (power), 6 GND (power), 7 IN (power), 8 OUTA (power)

## ICC_MCL_MIC5514-1.2YMT
designator U?, comment MIC5514-1.2
ICC; Manufacturer: Micrel; MPN: MIC5514-1.2YMT; Specification: Low Voltage 300 mA LDO, 1.2V, Thin DFN6 Package; Component Type: IC; Mounting Type: SMD; Operating Temperature: -40°C to +125°C; Package: DFN6; Value: MIC5514-1.2
footprint TDFN6 (Footprint not found)
pins: 1 EN (in), 2 NC, 3 VIN (power), 4 VOUT (power), 5 NC, 6 GND (power), EPAD (power)